# Altium schematic symbol library STC.SchLib: 68 symbols
Pins are listed as number, name and electrical type; pins without a type are passive.

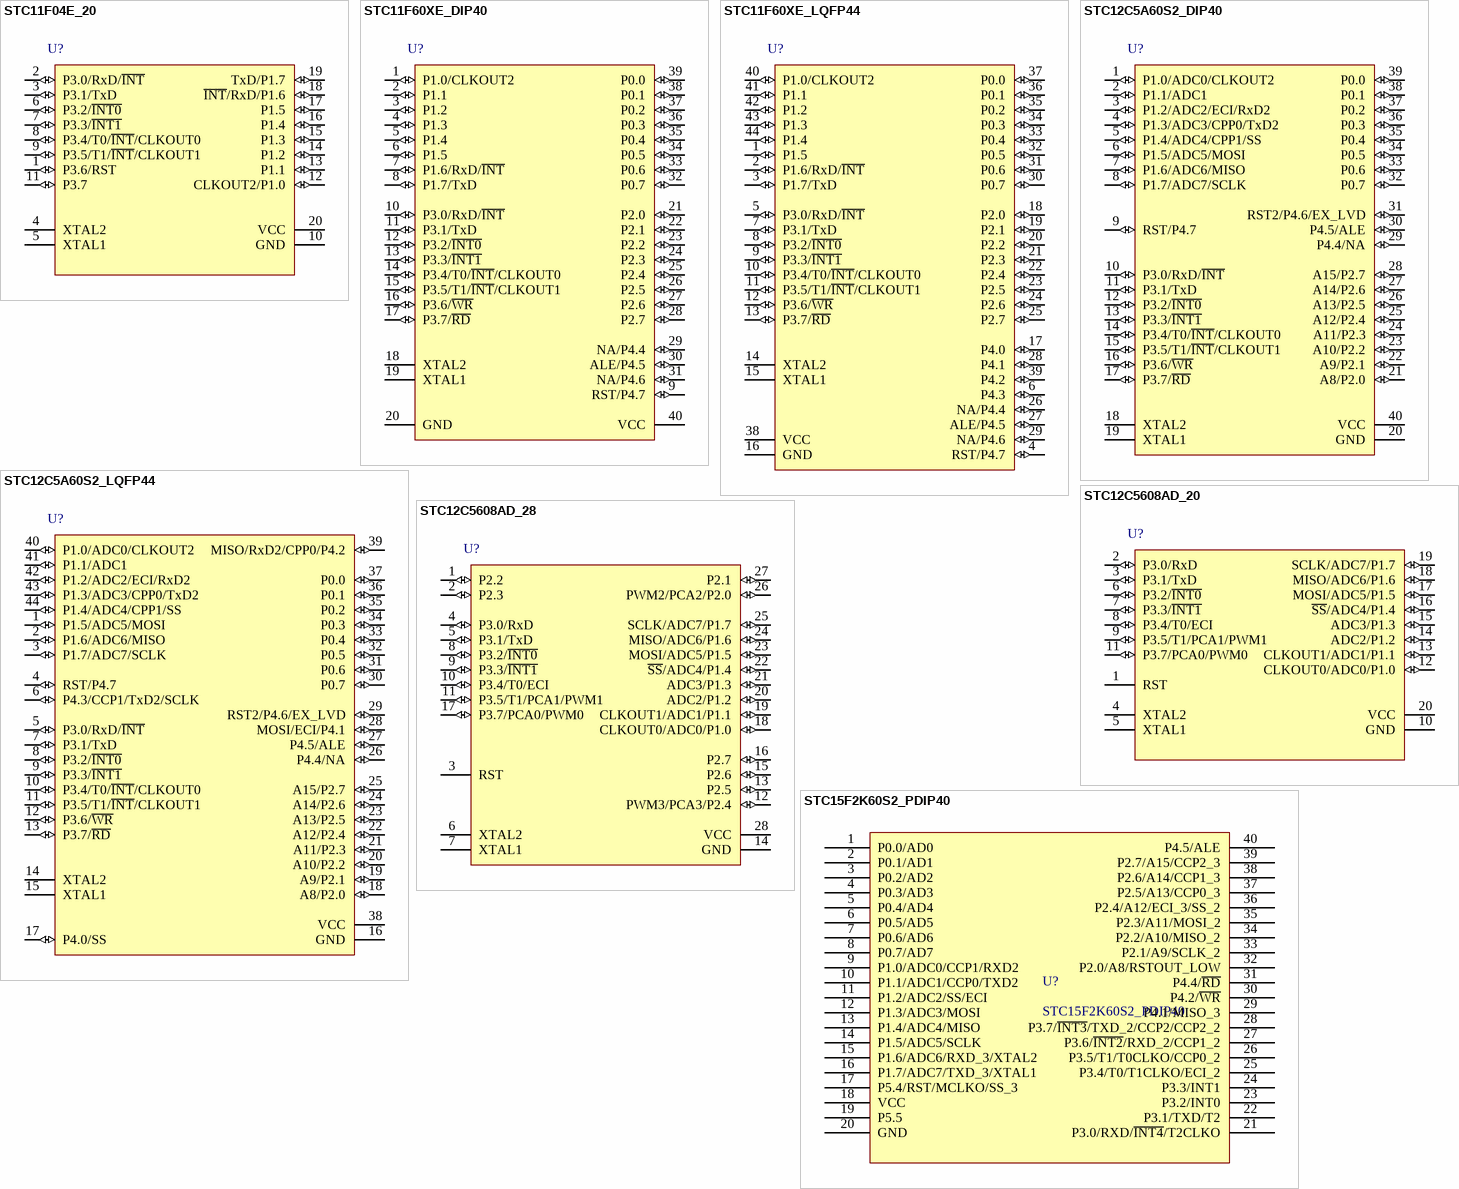
[diagram p0: symbols STC11F04E_20 to STC15F2K60S2_PDIP40]

## STC11F04E_20
designator U?
增强型8051单片机
footprint DIP20
footprint SOP20
pins: 1 P3.6/RST (io), 2 P3.0/RxD/~{INT} (io), 3 P3.1/TxD (io), 4 XTAL2, 5 XTAL1, 6 P3.2/~{INT0} (io), 7 P3.3/~{INT1} (io), 8 P3.4/T0/~{INT}/CLKOUT0 (io), 9 P3.5/T1/~{INT}/CLKOUT1 (io), 10 GND (power), 11 P3.7 (io), 12 CLKOUT2/P1.0 (io), 13 P1.1 (io), 14 P1.2 (io), 15 P1.3 (io), 16 P1.4 (io), 17 P1.5 (io), 18 ~{INT}/RxD/P1.6 (io), 19 TxD/P1.7 (io), 20 VCC (power)

## STC11F60XE_DIP40
designator U?
增强型8051单片机
footprint DIP40
pins: 1 P1.0/CLKOUT2 (io), 2 P1.1 (io), 3 P1.2 (io), 4 P1.3 (io), 5 P1.4 (io), 6 P1.5 (io), 7 P1.6/RxD/~{INT} (io), 8 P1.7/TxD (io), 9 RST/P4.7 (io), 10 P3.0/RxD/~{INT} (io), 11 P3.1/TxD (io), 12 P3.2/~{INT0} (io), 13 P3.3/~{INT1} (io), 14 P3.4/T0/~{INT}/CLKOUT0 (io), 15 P3.5/T1/~{INT}/CLKOUT1 (io), 16 P3.6/~{WR} (io), 17 P3.7/~{RD} (io), 18 XTAL2, 19 XTAL1, 20 GND (power), 21 P2.0 (io), 22 P2.1 (io), 23 P2.2 (io), 24 P2.3 (io), 25 P2.4 (io), 26 P2.5 (io), 27 P2.6 (io), 28 P2.7 (io), 29 NA/P4.4 (io), 30 ALE/P4.5 (io), 31 NA/P4.6 (io), 32 P0.7 (io), 33 P0.6 (io), 34 P0.5 (io), 35 P0.4 (io), 36 P0.3 (io), 37 P0.2 (io), 38 P0.1 (io), 39 P0.0 (io), 40 VCC (power)

## STC11F60XE_LQFP44
designator U?
增强型8051单片机
footprint LQFP44
pins: 1 P1.5 (io), 2 P1.6/RxD/~{INT} (io), 3 P1.7/TxD (io), 4 RST/P4.7 (io), 5 P3.0/RxD/~{INT} (io), 6 P4.3 (io), 7 P3.1/TxD (io), 8 P3.2/~{INT0} (io), 9 P3.3/~{INT1} (io), 10 P3.4/T0/~{INT}/CLKOUT0 (io), 11 P3.5/T1/~{INT}/CLKOUT1 (io), 12 P3.6/~{WR} (io), 13 P3.7/~{RD} (io), 14 XTAL2, 15 XTAL1, 16 GND (power), 17 P4.0 (io), 18 P2.0 (io), 19 P2.1 (io), 20 P2.2 (io), 21 P2.3 (io), 22 P2.4 (io), 23 P2.5 (io), 24 P2.6 (io), 25 P2.7 (io), 26 NA/P4.4 (io), 27 ALE/P4.5 (io), 28 P4.1 (io), 29 NA/P4.6 (io), 30 P0.7 (io), 31 P0.6 (io), 32 P0.5 (io), 33 P0.4 (io), 34 P0.3 (io), 35 P0.2 (io), 36 P0.1 (io), 37 P0.0 (io), 38 VCC (power), 39 P4.2 (io), 40 P1.0/CLKOUT2 (io), 41 P1.1 (io), 42 P1.2 (io), 43 P1.3 (io), 44 P1.4 (io)

## STC12C5A60S2_DIP40
designator U?
增强型8051单片机
footprint DIP40
pins: 1 P1.0/ADC0/CLKOUT2 (io), 2 P1.1/ADC1 (io), 3 P1.2/ADC2/ECI/RxD2 (io), 4 P1.3/ADC3/CPP0/TxD2 (io), 5 P1.4/ADC4/CPP1/SS (io), 6 P1.5/ADC5/MOSI (io), 7 P1.6/ADC6/MISO (io), 8 P1.7/ADC7/SCLK (io), 9 RST/P4.7 (io), 10 P3.0/RxD/~{INT} (io), 11 P3.1/TxD (io), 12 P3.2/~{INT0} (io), 13 P3.3/~{INT1} (io), 14 P3.4/T0/~{INT}/CLKOUT0 (io), 15 P3.5/T1/~{INT}/CLKOUT1 (io), 16 P3.6/~{WR} (io), 17 P3.7/~{RD} (io), 18 XTAL2, 19 XTAL1, 20 GND (power), 21 A8/P2.0 (io), 22 A9/P2.1 (io), 23 A10/P2.2 (io), 24 A11/P2.3 (io), 25 A12/P2.4 (io), 26 A13/P2.5 (io), 27 A14/P2.6 (io), 28 A15/P2.7 (io), 29 P4.4/NA (io), 30 P4.5/ALE (io), 31 RST2/P4.6/EX_LVD (io), 32 P0.7 (io), 33 P0.6 (io), 34 P0.5 (io), 35 P0.4 (io), 36 P0.3 (io), 37 P0.2 (io), 38 P0.1 (io), 39 P0.0 (io), 40 VCC (power)

## STC12C5A60S2_LQFP44
designator U?
增强型8051单片机
footprint LQFP44
pins: 1 P1.5/ADC5/MOSI (io), 2 P1.6/ADC6/MISO (io), 3 P1.7/ADC7/SCLK (io), 4 RST/P4.7 (io), 5 P3.0/RxD/~{INT} (io), 6 P4.3/CCP1/TxD2/SCLK (io), 7 P3.1/TxD (io), 8 P3.2/~{INT0} (io), 9 P3.3/~{INT1} (io), 10 P3.4/T0/~{INT}/CLKOUT0 (io), 11 P3.5/T1/~{INT}/CLKOUT1 (io), 12 P3.6/~{WR} (io), 13 P3.7/~{RD} (io), 14 XTAL2, 15 XTAL1, 16 GND (power), 17 P4.0/SS (io), 18 A8/P2.0 (io), 19 A9/P2.1 (io), 20 A10/P2.2 (io), 21 A11/P2.3 (io), 22 A12/P2.4 (io), 23 A13/P2.5 (io), 24 A14/P2.6 (io), 25 A15/P2.7 (io), 26 P4.4/NA (io), 27 P4.5/ALE (io), 28 MOSI/ECI/P4.1 (io), 29 RST2/P4.6/EX_LVD (io), 30 P0.7 (io), 31 P0.6 (io), 32 P0.5 (io), 33 P0.4 (io), 34 P0.3 (io), 35 P0.2 (io), 36 P0.1 (io), 37 P0.0 (io), 38 VCC (power), 39 MISO/RxD2/CPP0/P4.2 (io), 40 P1.0/ADC0/CLKOUT2 (io), 41 P1.1/ADC1 (io), 42 P1.2/ADC2/ECI/RxD2 (io), 43 P1.3/ADC3/CPP0/TxD2 (io), 44 P1.4/ADC4/CPP1/SS (io)

## STC12C5608AD_20
designator U?
增强型8051单片机
footprint DIP20
footprint SOP20
pins: 1 RST, 2 P3.0/RxD (io), 3 P3.1/TxD (io), 4 XTAL2, 5 XTAL1, 6 P3.2/~{INT0} (io), 7 P3.3/~{INT1} (io), 8 P3.4/T0/ECI (io), 9 P3.5/T1/PCA1/PWM1 (io), 10 GND (power), 11 P3.7/PCA0/PWM0 (io), 12 CLKOUT0/ADC0/P1.0 (io), 13 CLKOUT1/ADC1/P1.1 (io), 14 ADC2/P1.2 (io), 15 ADC3/P1.3 (io), 16 ~{SS}/ADC4/P1.4 (io), 17 MOSI/ADC5/P1.5 (io), 18 MISO/ADC6/P1.6 (io), 19 SCLK/ADC7/P1.7 (io), 20 VCC (power)

## STC12C5608AD_28
designator U?
增强型8051单片机
footprint SKDIP28
footprint SOP28
pins: 1 P2.2 (io), 2 P2.3 (io), 3 RST, 4 P3.0/RxD (io), 5 P3.1/TxD (io), 6 XTAL2, 7 XTAL1, 8 P3.2/~{INT0} (io), 9 P3.3/~{INT1} (io), 10 P3.4/T0/ECI (io), 11 P3.5/T1/PCA1/PWM1 (io), 12 PWM3/PCA3/P2.4 (io), 13 P2.5 (io), 14 GND (power), 15 P2.6 (io), 16 P2.7 (io), 17 P3.7/PCA0/PWM0 (io), 18 CLKOUT0/ADC0/P1.0 (io), 19 CLKOUT1/ADC1/P1.1 (io), 20 ADC2/P1.2 (io), 21 ADC3/P1.3 (io), 22 ~{SS}/ADC4/P1.4 (io), 23 MOSI/ADC5/P1.5 (io), 24 MISO/ADC6/P1.6 (io), 25 SCLK/ADC7/P1.7 (io), 26 PWM2/PCA2/P2.0 (io), 27 P2.1 (io), 28 VCC (power)

## STC15F2K60S2_PDIP40
designator U?
footprint DIP40
pins: 1 P0.0/AD0, 2 P0.1/AD1, 3 P0.2/AD2, 4 P0.3/AD3, 5 P0.4/AD4, 6 P0.5/AD5, 7 P0.6/AD6, 8 P0.7/AD7, 9 P1.0/ADC0/CCP1/RXD2, 10 P1.1/ADC1/CCP0/TXD2, 11 P1.2/ADC2/SS/ECI, 12 P1.3/ADC3/MOSI, 13 P1.4/ADC4/MISO, 14 P1.5/ADC5/SCLK, 15 P1.6/ADC6/RXD_3/XTAL2, 16 P1.7/ADC7/TXD_3/XTAL1, 17 P5.4/RST/MCLKO/SS_3, 18 VCC, 19 P5.5, 20 GND, 21 P3.0/RXD/~{INT4}/T2CLKO, 22 P3.1/TXD/T2, 23 P3.2/INT0, 24 P3.3/INT1, 25 P3.4/T0/T1CLKO/ECI_2, 26 P3.5/T1/T0CLKO/CCP0_2, 27 P3.6/~{INT2}/RXD_2/CCP1_2, 28 P3.7/~{INT3}/TXD_2/CCP2/CCP2_2, 29 P4.1/MISO_3, 30 P4.2/~{WR}, 31 P4.4/~{RD}, 32 P2.0/A8/RSTOUT_LOW, 33 P2.1/A9/SCLK_2, 34 P2.2/A10/MISO_2, 35 P2.3/A11/MOSI_2, 36 P2.4/A12/ECI_3/SS_2, 37 P2.5/A13/CCP0_3, 38 P2.6/A14/CCP1_3, 39 P2.7/A15/CCP2_3, 40 P4.5/ALE

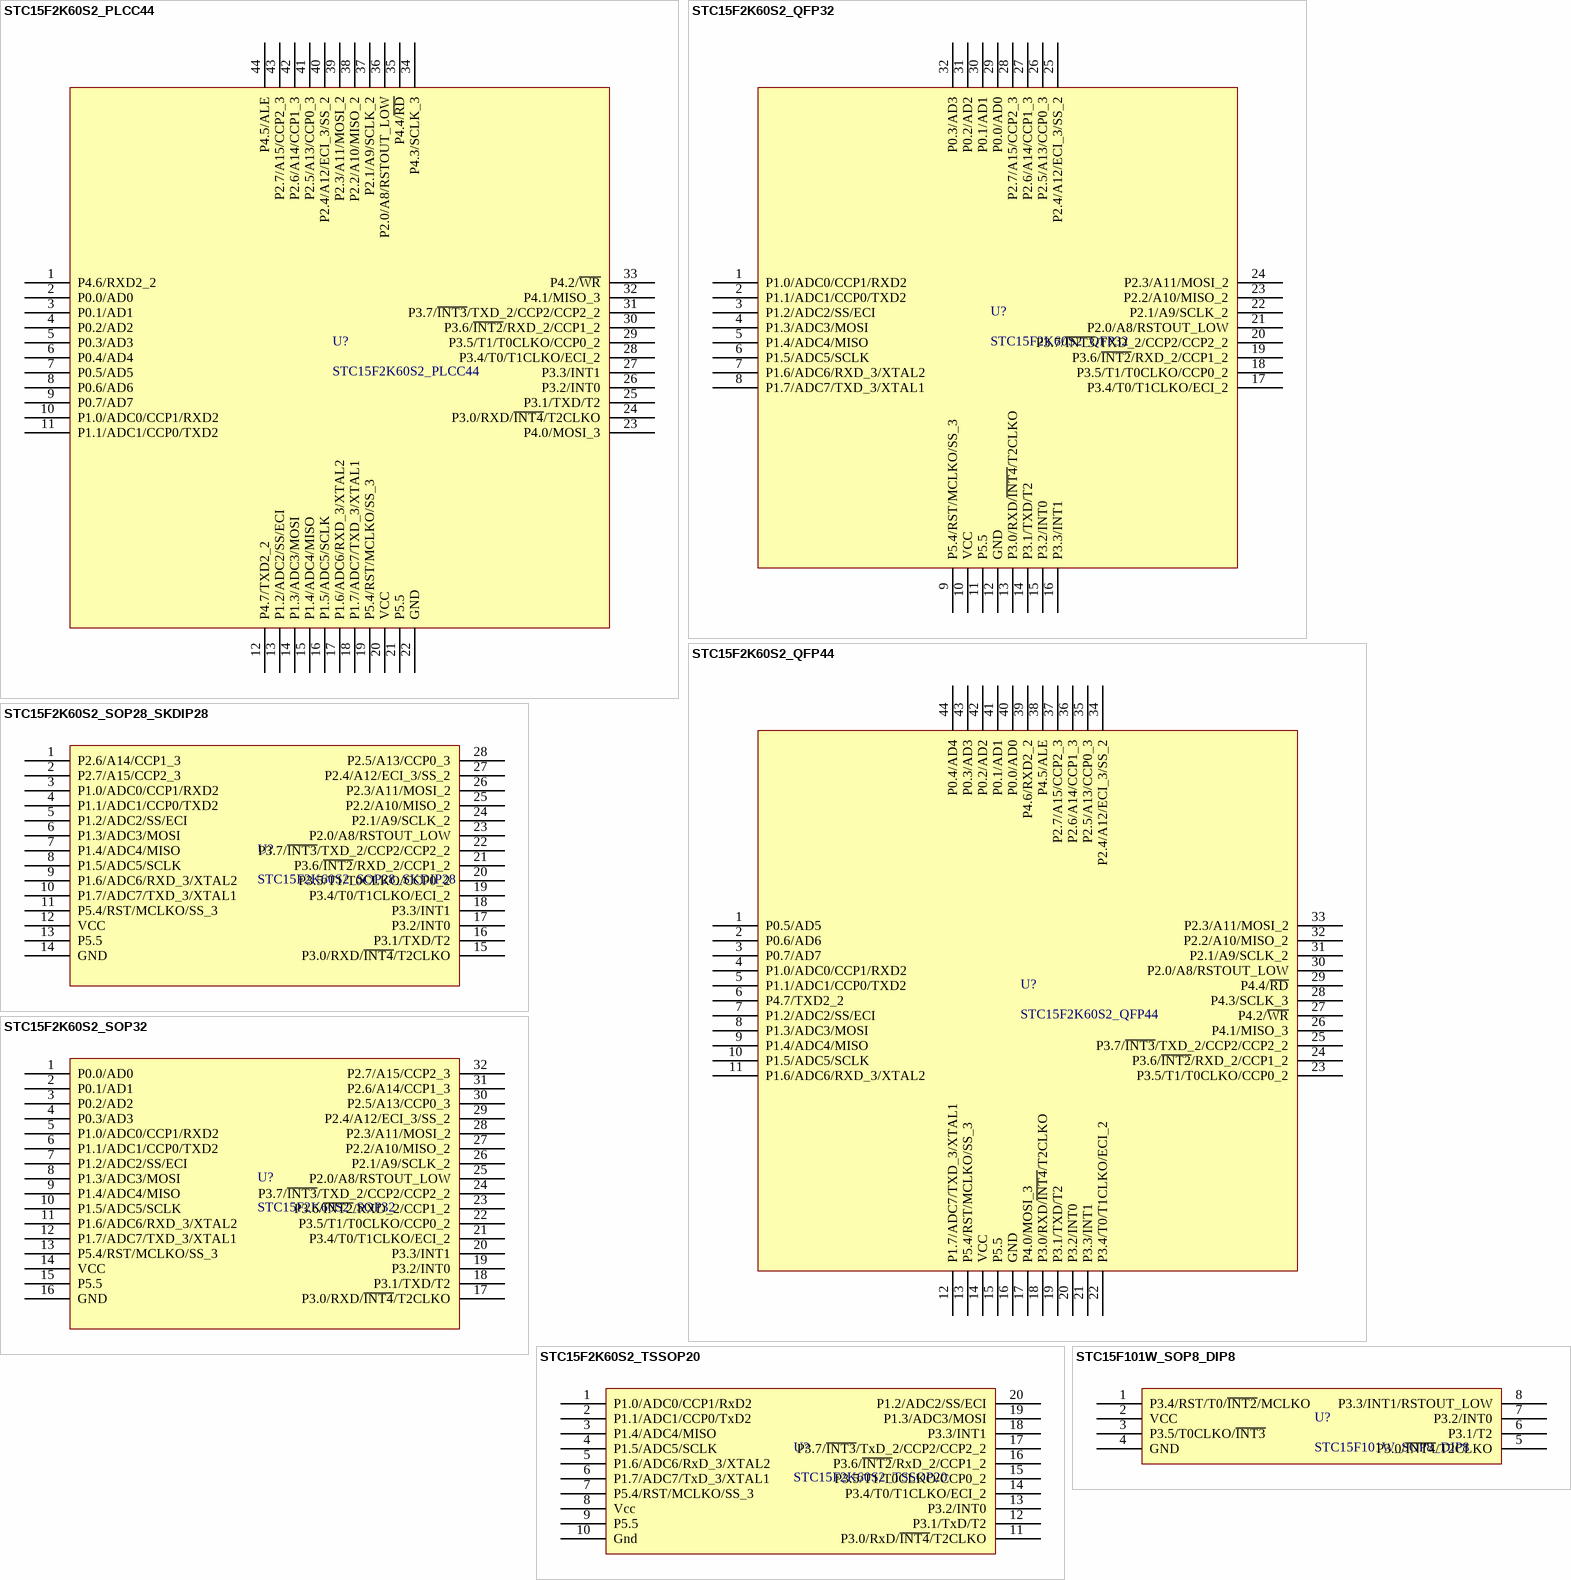
[diagram p1: symbols STC15F2K60S2_PLCC44 to STC15F101W_SOP8_DIP8]

## STC15F2K60S2_PLCC44
designator U?
footprint PLCC44
pins: 1 P4.6/RXD2_2, 2 P0.0/AD0, 3 P0.1/AD1, 4 P0.2/AD2, 5 P0.3/AD3, 6 P0.4/AD4, 7 P0.5/AD5, 8 P0.6/AD6, 9 P0.7/AD7, 10 P1.0/ADC0/CCP1/RXD2, 11 P1.1/ADC1/CCP0/TXD2, 12 P4.7/TXD2_2, 13 P1.2/ADC2/SS/ECI, 14 P1.3/ADC3/MOSI, 15 P1.4/ADC4/MISO, 16 P1.5/ADC5/SCLK, 17 P1.6/ADC6/RXD_3/XTAL2, 18 P1.7/ADC7/TXD_3/XTAL1, 19 P5.4/RST/MCLKO/SS_3, 20 VCC, 21 P5.5, 22 GND, 23 P4.0/MOSI_3, 24 P3.0/RXD/~{INT4}/T2CLKO, 25 P3.1/TXD/T2, 26 P3.2/INT0, 27 P3.3/INT1, 28 P3.4/T0/T1CLKO/ECI_2, 29 P3.5/T1/T0CLKO/CCP0_2, 30 P3.6/~{INT2}/RXD_2/CCP1_2, 31 P3.7/~{INT3}/TXD_2/CCP2/CCP2_2, 32 P4.1/MISO_3, 33 P4.2/~{WR}, 34 P4.3/SCLK_3, 35 P4.4/~{RD}, 36 P2.0/A8/RSTOUT_LOW, 37 P2.1/A9/SCLK_2, 38 P2.2/A10/MISO_2, 39 P2.3/A11/MOSI_2, 40 P2.4/A12/ECI_3/SS_2, 41 P2.5/A13/CCP0_3, 42 P2.6/A14/CCP1_3, 43 P2.7/A15/CCP2_3, 44 P4.5/ALE

## STC15F2K60S2_QFP32
designator U?
footprint LQFP32
pins: 1 P1.0/ADC0/CCP1/RXD2, 2 P1.1/ADC1/CCP0/TXD2, 3 P1.2/ADC2/SS/ECI, 4 P1.3/ADC3/MOSI, 5 P1.4/ADC4/MISO, 6 P1.5/ADC5/SCLK, 7 P1.6/ADC6/RXD_3/XTAL2, 8 P1.7/ADC7/TXD_3/XTAL1, 9 P5.4/RST/MCLKO/SS_3, 10 VCC, 11 P5.5, 12 GND, 13 P3.0/RXD/~{INT4}/T2CLKO, 14 P3.1/TXD/T2, 15 P3.2/INT0, 16 P3.3/INT1, 17 P3.4/T0/T1CLKO/ECI_2, 18 P3.5/T1/T0CLKO/CCP0_2, 19 P3.6/~{INT2}/RXD_2/CCP1_2, 20 P3.7/~{INT3}/TXD_2/CCP2/CCP2_2, 21 P2.0/A8/RSTOUT_LOW, 22 P2.1/A9/SCLK_2, 23 P2.2/A10/MISO_2, 24 P2.3/A11/MOSI_2, 25 P2.4/A12/ECI_3/SS_2, 26 P2.5/A13/CCP0_3, 27 P2.6/A14/CCP1_3, 28 P2.7/A15/CCP2_3, 29 P0.0/AD0, 30 P0.1/AD1, 31 P0.2/AD2, 32 P0.3/AD3

## STC15F2K60S2_QFP44
designator U?
footprint PQFP44
footprint LQFP44
pins: 1 P0.5/AD5, 2 P0.6/AD6, 3 P0.7/AD7, 4 P1.0/ADC0/CCP1/RXD2, 5 P1.1/ADC1/CCP0/TXD2, 6 P4.7/TXD2_2, 7 P1.2/ADC2/SS/ECI, 8 P1.3/ADC3/MOSI, 9 P1.4/ADC4/MISO, 10 P1.5/ADC5/SCLK, 11 P1.6/ADC6/RXD_3/XTAL2, 12 P1.7/ADC7/TXD_3/XTAL1, 13 P5.4/RST/MCLKO/SS_3, 14 VCC, 15 P5.5, 16 GND, 17 P4.0/MOSI_3, 18 P3.0/RXD/~{INT4}/T2CLKO, 19 P3.1/TXD/T2, 20 P3.2/INT0, 21 P3.3/INT1, 22 P3.4/T0/T1CLKO/ECI_2, 23 P3.5/T1/T0CLKO/CCP0_2, 24 P3.6/~{INT2}/RXD_2/CCP1_2, 25 P3.7/~{INT3}/TXD_2/CCP2/CCP2_2, 26 P4.1/MISO_3, 27 P4.2/~{WR}, 28 P4.3/SCLK_3, 29 P4.4/~{RD}, 30 P2.0/A8/RSTOUT_LOW, 31 P2.1/A9/SCLK_2, 32 P2.2/A10/MISO_2, 33 P2.3/A11/MOSI_2, 34 P2.4/A12/ECI_3/SS_2, 35 P2.5/A13/CCP0_3, 36 P2.6/A14/CCP1_3, 37 P2.7/A15/CCP2_3, 38 P4.5/ALE, 39 P4.6/RXD2_2, 40 P0.0/AD0, 41 P0.1/AD1, 42 P0.2/AD2, 43 P0.3/AD3, 44 P0.4/AD4

## STC15F2K60S2_SOP28_SKDIP28
designator U?
footprint SKDIP28
footprint SOP28
footprint TSSOP28
pins: 1 P2.6/A14/CCP1_3, 2 P2.7/A15/CCP2_3, 3 P1.0/ADC0/CCP1/RXD2, 4 P1.1/ADC1/CCP0/TXD2, 5 P1.2/ADC2/SS/ECI, 6 P1.3/ADC3/MOSI, 7 P1.4/ADC4/MISO, 8 P1.5/ADC5/SCLK, 9 P1.6/ADC6/RXD_3/XTAL2, 10 P1.7/ADC7/TXD_3/XTAL1, 11 P5.4/RST/MCLKO/SS_3, 12 VCC, 13 P5.5, 14 GND, 15 P3.0/RXD/~{INT4}/T2CLKO, 16 P3.1/TXD/T2, 17 P3.2/INT0, 18 P3.3/INT1, 19 P3.4/T0/T1CLKO/ECI_2, 20 P3.5/T1/T0CLKO/CCP0_2, 21 P3.6/~{INT2}/RXD_2/CCP1_2, 22 P3.7/~{INT3}/TXD_2/CCP2/CCP2_2, 23 P2.0/A8/RSTOUT_LOW, 24 P2.1/A9/SCLK_2, 25 P2.2/A10/MISO_2, 26 P2.3/A11/MOSI_2, 27 P2.4/A12/ECI_3/SS_2, 28 P2.5/A13/CCP0_3

## STC15F2K60S2_SOP32
designator U?
footprint SOP32
pins: 1 P0.0/AD0, 2 P0.1/AD1, 3 P0.2/AD2, 4 P0.3/AD3, 5 P1.0/ADC0/CCP1/RXD2, 6 P1.1/ADC1/CCP0/TXD2, 7 P1.2/ADC2/SS/ECI, 8 P1.3/ADC3/MOSI, 9 P1.4/ADC4/MISO, 10 P1.5/ADC5/SCLK, 11 P1.6/ADC6/RXD_3/XTAL2, 12 P1.7/ADC7/TXD_3/XTAL1, 13 P5.4/RST/MCLKO/SS_3, 14 VCC, 15 P5.5, 16 GND, 17 P3.0/RXD/~{INT4}/T2CLKO, 18 P3.1/TXD/T2, 19 P3.2/INT0, 20 P3.3/INT1, 21 P3.4/T0/T1CLKO/ECI_2, 22 P3.5/T1/T0CLKO/CCP0_2, 23 P3.6/~{INT2}/RXD_2/CCP1_2, 24 P3.7/~{INT3}/TXD_2/CCP2/CCP2_2, 25 P2.0/A8/RSTOUT_LOW, 26 P2.1/A9/SCLK_2, 27 P2.2/A10/MISO_2, 28 P2.3/A11/MOSI_2, 29 P2.4/A12/ECI_3/SS_2, 30 P2.5/A13/CCP0_3, 31 P2.6/A14/CCP1_3, 32 P2.7/A15/CCP2_3

## STC15F2K60S2_TSSOP20
designator U?
footprint TSSOP20
pins: 1 P1.0/ADC0/CCP1/RxD2, 2 P1.1/ADC1/CCP0/TxD2, 3 P1.4/ADC4/MISO, 4 P1.5/ADC5/SCLK, 5 P1.6/ADC6/RxD_3/XTAL2, 6 P1.7/ADC7/TxD_3/XTAL1, 7 P5.4/RST/MCLKO/SS_3, 8 Vcc, 9 P5.5, 10 Gnd, 11 P3.0/RxD/~{INT4}/T2CLKO, 12 P3.1/TxD/T2, 13 P3.2/INT0, 14 P3.4/T0/T1CLKO/ECI_2, 15 P3.5/T1/T0CLKO/CCP0_2, 16 P3.6/~{INT2}/RxD_2/CCP1_2, 17 P3.7/~{INT3}/TxD_2/CCP2/CCP2_2, 18 P3.3/INT1, 19 P1.3/ADC3/MOSI, 20 P1.2/ADC2/SS/ECI

## STC15F101W_SOP8_DIP8
designator U?
footprint DFN8
footprint DIP8
footprint SOP8
footprint DIP8_SOP8
pins: 1 P3.4/RST/T0/~{INT2}/MCLKO, 2 VCC, 3 P3.5/T0CLKO/~{INT3}, 4 GND, 5 P3.0/~{INT4}/T2CLKO, 6 P3.1/T2, 7 P3.2/INT0, 8 P3.3/INT1/RSTOUT_LOW

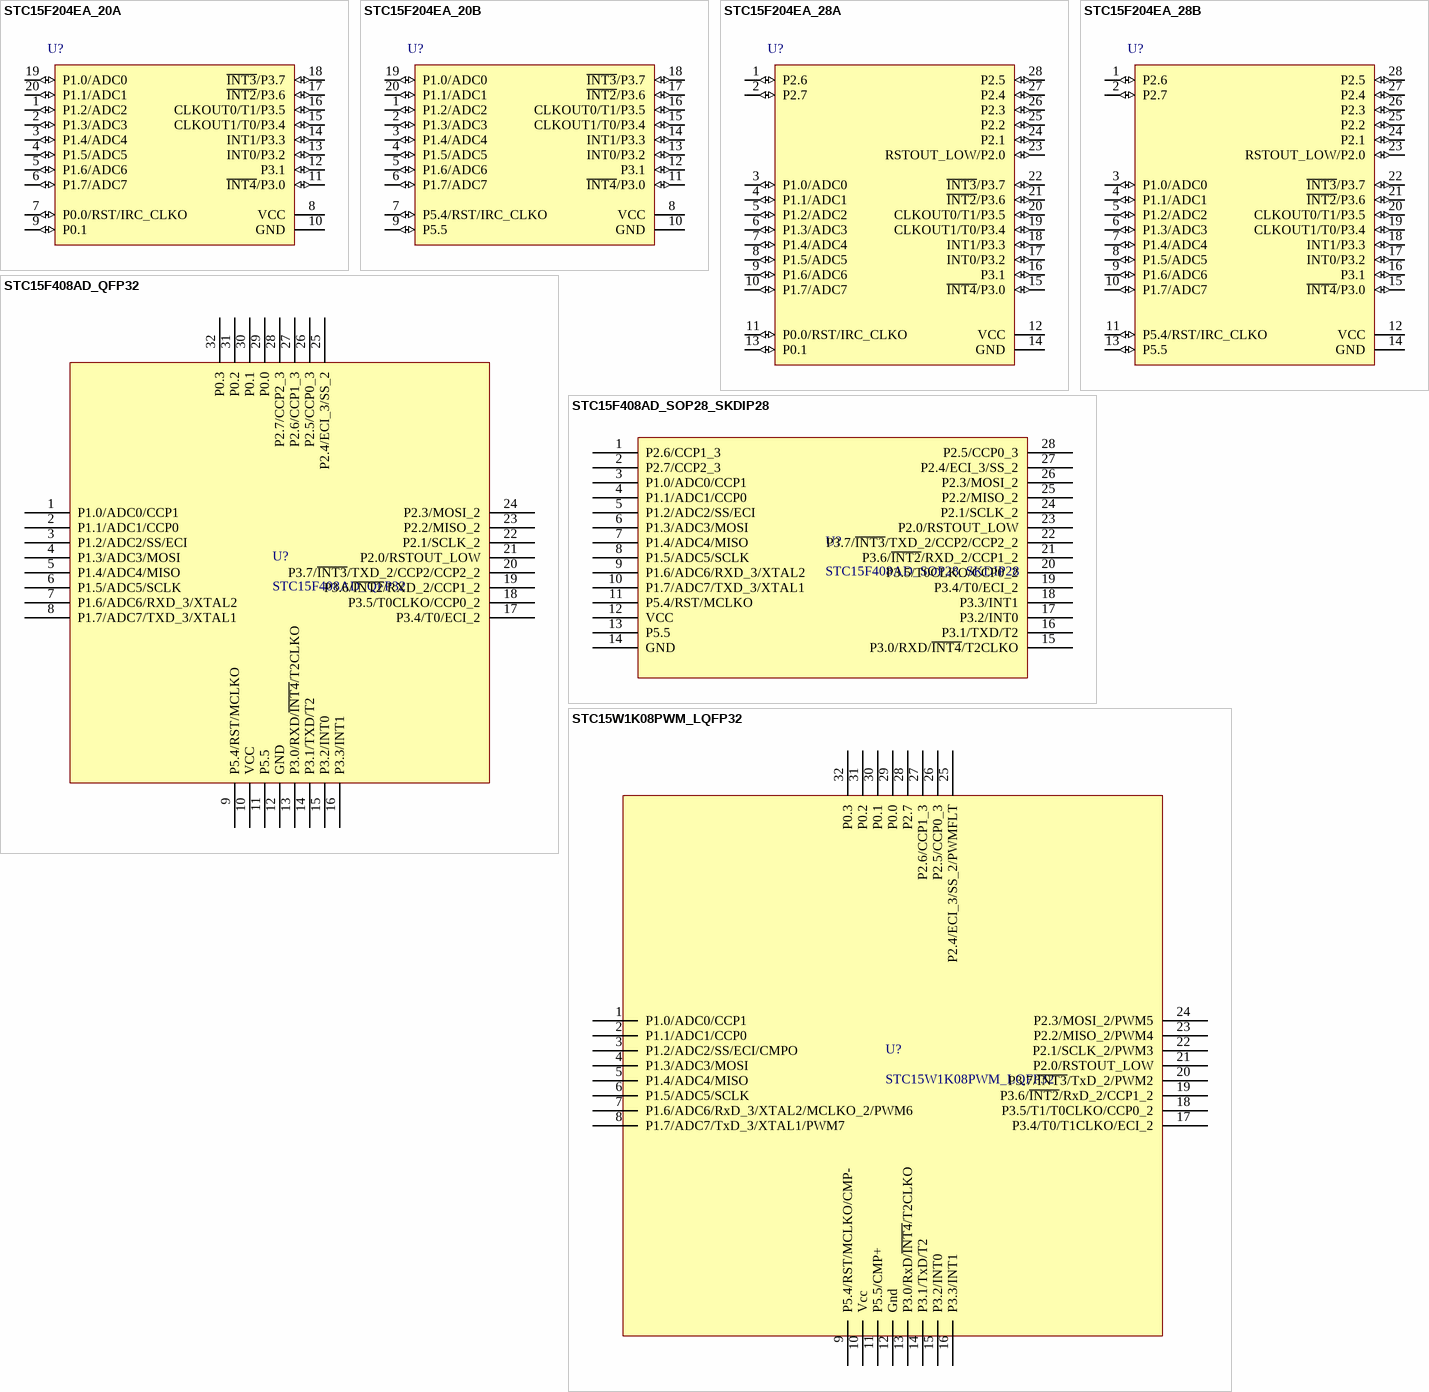
[diagram p2: symbols STC15F204EA_20A to STC15W1K08PWM_LQFP32]

## STC15F204EA_20A
designator U?
增强型8051单片机
footprint DIP20
footprint SOP20
pins: 1 P1.2/ADC2 (io), 2 P1.3/ADC3 (io), 3 P1.4/ADC4 (io), 4 P1.5/ADC5 (io), 5 P1.6/ADC6 (io), 6 P1.7/ADC7 (io), 7 P0.0/RST/IRC_CLKO (io), 8 VCC (power), 9 P0.1 (io), 10 GND (power), 11 ~{INT4}/P3.0 (io), 12 P3.1 (io), 13 INT0/P3.2 (io), 14 INT1/P3.3 (io), 15 CLKOUT1/T0/P3.4 (io), 16 CLKOUT0/T1/P3.5 (io), 17 ~{INT2}/P3.6 (io), 18 ~{INT3}/P3.7 (io), 19 P1.0/ADC0 (io), 20 P1.1/ADC1 (io)

## STC15F204EA_20B
designator U?
增强型8051单片机
footprint DIP20
footprint SOP20
pins: 1 P1.2/ADC2 (io), 2 P1.3/ADC3 (io), 3 P1.4/ADC4 (io), 4 P1.5/ADC5 (io), 5 P1.6/ADC6 (io), 6 P1.7/ADC7 (io), 7 P5.4/RST/IRC_CLKO (io), 8 VCC (power), 9 P5.5 (io), 10 GND (power), 11 ~{INT4}/P3.0 (io), 12 P3.1 (io), 13 INT0/P3.2 (io), 14 INT1/P3.3 (io), 15 CLKOUT1/T0/P3.4 (io), 16 CLKOUT0/T1/P3.5 (io), 17 ~{INT2}/P3.6 (io), 18 ~{INT3}/P3.7 (io), 19 P1.0/ADC0 (io), 20 P1.1/ADC1 (io)

## STC15F204EA_28A
designator U?
增强型8051单片机
footprint SKDIP28
footprint SOP28
pins: 1 P2.6 (io), 2 P2.7 (io), 3 P1.0/ADC0 (io), 4 P1.1/ADC1 (io), 5 P1.2/ADC2 (io), 6 P1.3/ADC3 (io), 7 P1.4/ADC4 (io), 8 P1.5/ADC5 (io), 9 P1.6/ADC6 (io), 10 P1.7/ADC7 (io), 11 P0.0/RST/IRC_CLKO (io), 12 VCC (power), 13 P0.1 (io), 14 GND (power), 15 ~{INT4}/P3.0 (io), 16 P3.1 (io), 17 INT0/P3.2 (io), 18 INT1/P3.3 (io), 19 CLKOUT1/T0/P3.4 (io), 20 CLKOUT0/T1/P3.5 (io), 21 ~{INT2}/P3.6 (io), 22 ~{INT3}/P3.7 (io), 23 RSTOUT_LOW/P2.0 (io), 24 P2.1 (io), 25 P2.2 (io), 26 P2.3 (io), 27 P2.4 (io), 28 P2.5 (io)

## STC15F204EA_28B
designator U?
增强型8051单片机
footprint SKDIP28
footprint SOP28
pins: 1 P2.6 (io), 2 P2.7 (io), 3 P1.0/ADC0 (io), 4 P1.1/ADC1 (io), 5 P1.2/ADC2 (io), 6 P1.3/ADC3 (io), 7 P1.4/ADC4 (io), 8 P1.5/ADC5 (io), 9 P1.6/ADC6 (io), 10 P1.7/ADC7 (io), 11 P5.4/RST/IRC_CLKO (io), 12 VCC (power), 13 P5.5 (io), 14 GND (power), 15 ~{INT4}/P3.0 (io), 16 P3.1 (io), 17 INT0/P3.2 (io), 18 INT1/P3.3 (io), 19 CLKOUT1/T0/P3.4 (io), 20 CLKOUT0/T1/P3.5 (io), 21 ~{INT2}/P3.6 (io), 22 ~{INT3}/P3.7 (io), 23 RSTOUT_LOW/P2.0 (io), 24 P2.1 (io), 25 P2.2 (io), 26 P2.3 (io), 27 P2.4 (io), 28 P2.5 (io)

## STC15F408AD_QFP32
designator U?
footprint LQFP32
pins: 1 P1.0/ADC0/CCP1, 2 P1.1/ADC1/CCP0, 3 P1.2/ADC2/SS/ECI, 4 P1.3/ADC3/MOSI, 5 P1.4/ADC4/MISO, 6 P1.5/ADC5/SCLK, 7 P1.6/ADC6/RXD_3/XTAL2, 8 P1.7/ADC7/TXD_3/XTAL1, 9 P5.4/RST/MCLKO, 10 VCC, 11 P5.5, 12 GND, 13 P3.0/RXD/~{INT4}/T2CLKO, 14 P3.1/TXD/T2, 15 P3.2/INT0, 16 P3.3/INT1, 17 P3.4/T0/ECI_2, 18 P3.5/T0CLKO/CCP0_2, 19 P3.6/~{INT2}/RXD_2/CCP1_2, 20 P3.7/~{INT3}/TXD_2/CCP2/CCP2_2, 21 P2.0/RSTOUT_LOW, 22 P2.1/SCLK_2, 23 P2.2/MISO_2, 24 P2.3/MOSI_2, 25 P2.4/ECI_3/SS_2, 26 P2.5/CCP0_3, 27 P2.6/CCP1_3, 28 P2.7/CCP2_3, 29 P0.0, 30 P0.1, 31 P0.2, 32 P0.3

## STC15F408AD_SOP28_SKDIP28
designator U?
footprint SKDIP28
footprint SOP28
footprint TSSOP28
pins: 1 P2.6/CCP1_3, 2 P2.7/CCP2_3, 3 P1.0/ADC0/CCP1, 4 P1.1/ADC1/CCP0, 5 P1.2/ADC2/SS/ECI, 6 P1.3/ADC3/MOSI, 7 P1.4/ADC4/MISO, 8 P1.5/ADC5/SCLK, 9 P1.6/ADC6/RXD_3/XTAL2, 10 P1.7/ADC7/TXD_3/XTAL1, 11 P5.4/RST/MCLKO, 12 VCC, 13 P5.5, 14 GND, 15 P3.0/RXD/~{INT4}/T2CLKO, 16 P3.1/TXD/T2, 17 P3.2/INT0, 18 P3.3/INT1, 19 P3.4/T0/ECI_2, 20 P3.5/T0CLKO/CCP0_2, 21 P3.6/~{INT2}/RXD_2/CCP1_2, 22 P3.7/~{INT3}/TXD_2/CCP2/CCP2_2, 23 P2.0/RSTOUT_LOW, 24 P2.1/SCLK_2, 25 P2.2/MISO_2, 26 P2.3/MOSI_2, 27 P2.4/ECI_3/SS_2, 28 P2.5/CCP0_3

## STC15W1K08PWM_LQFP32
designator U?
footprint LQFP32
pins: 1 P1.0/ADC0/CCP1, 2 P1.1/ADC1/CCP0, 3 P1.2/ADC2/SS/ECI/CMPO, 4 P1.3/ADC3/MOSI, 5 P1.4/ADC4/MISO, 6 P1.5/ADC5/SCLK, 7 P1.6/ADC6/RxD_3/XTAL2/MCLKO_2/PWM6, 8 P1.7/ADC7/TxD_3/XTAL1/PWM7, 9 P5.4/RST/MCLKO/CMP-, 10 Vcc, 11 P5.5/CMP+, 12 Gnd, 13 P3.0/RxD/~{INT4}/T2CLKO, 14 P3.1/TxD/T2, 15 P3.2/INT0, 16 P3.3/INT1, 17 P3.4/T0/T1CLKO/ECI_2, 18 P3.5/T1/T0CLKO/CCP0_2, 19 P3.6/~{INT2}/RxD_2/CCP1_2, 20 P3.7/~{INT3}/TxD_2/PWM2, 21 P2.0/RSTOUT_LOW, 22 P2.1/SCLK_2/PWM3, 23 P2.2/MISO_2/PWM4, 24 P2.3/MOSI_2/PWM5, 25 P2.4/ECI_3/SS_2/PWMFLT, 26 P2.5/CCP0_3, 27 P2.6/CCP1_3, 28 P2.7, 29 P0.0, 30 P0.1, 31 P0.2, 32 P0.3

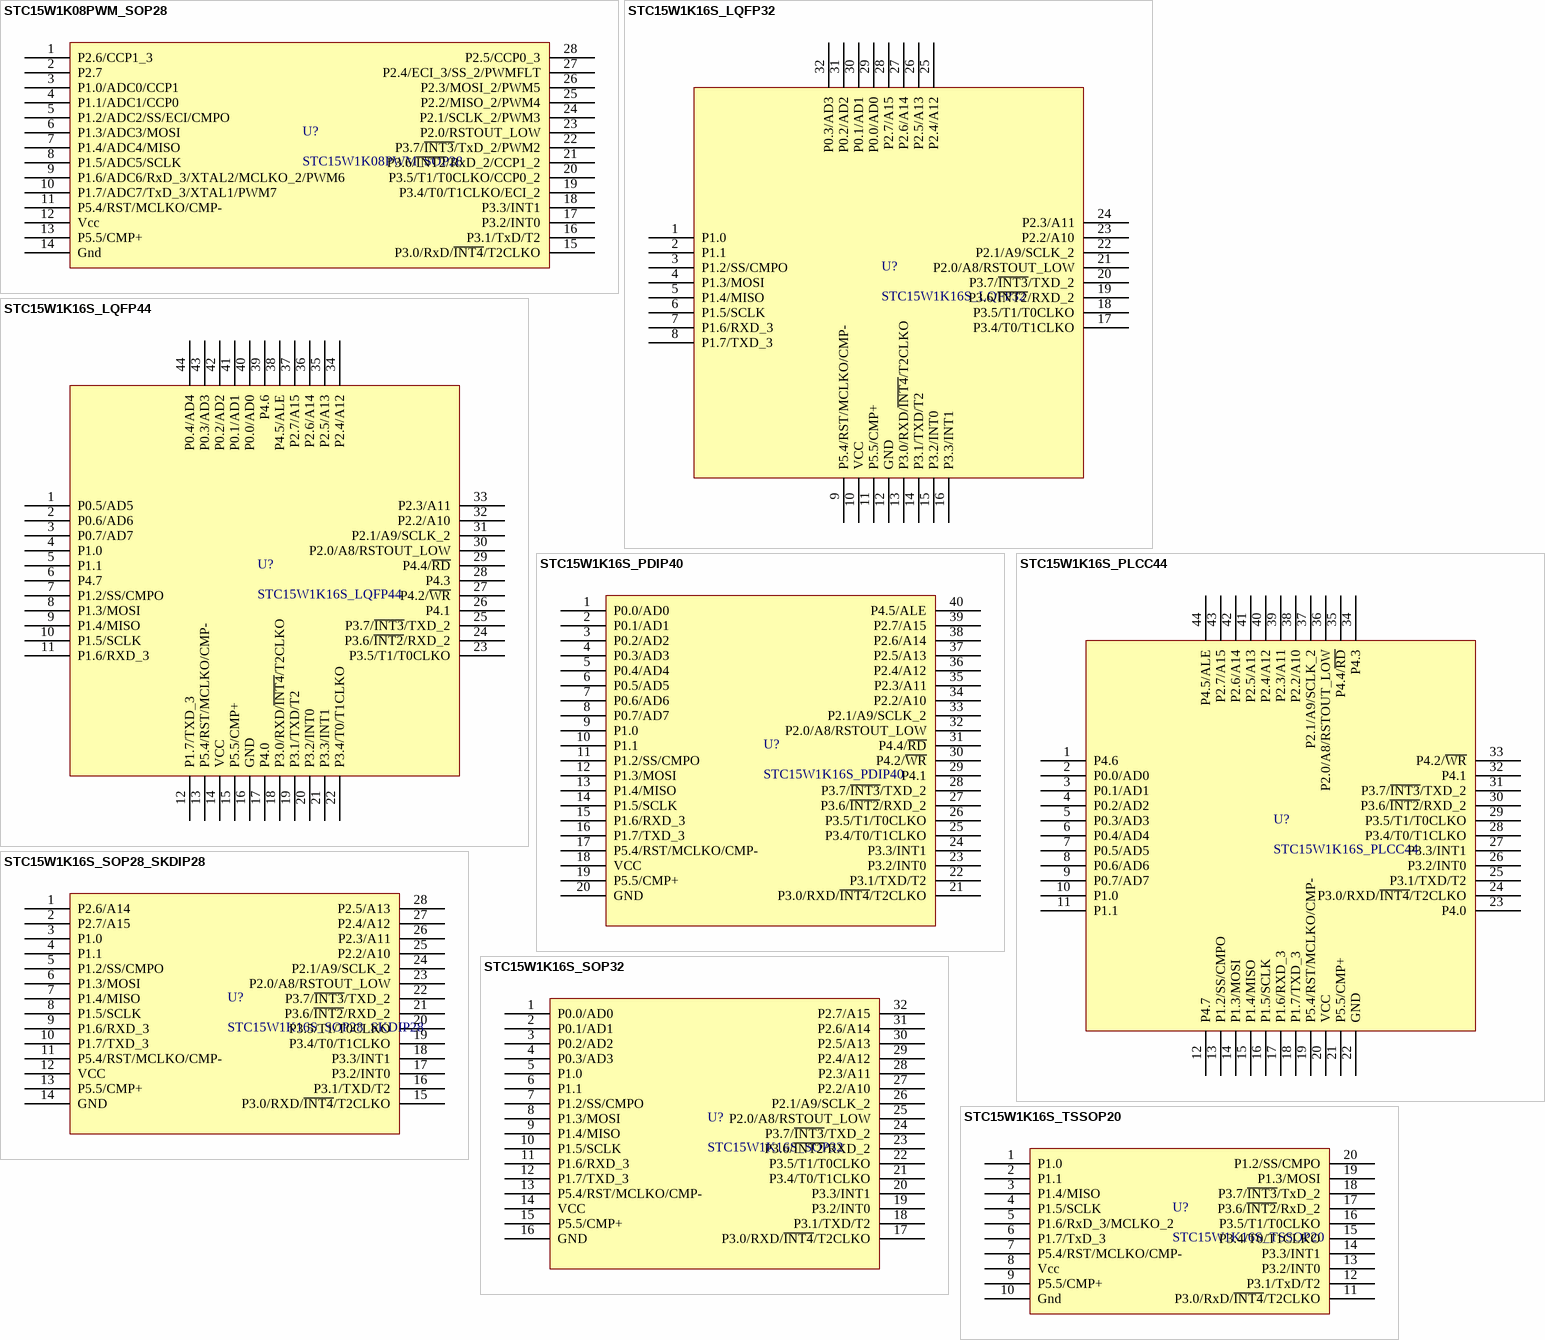
[diagram p3: symbols STC15W1K08PWM_SOP28 to STC15W1K16S_TSSOP20]

## STC15W1K08PWM_SOP28
designator U?
footprint SOP28
pins: 1 P2.6/CCP1_3, 2 P2.7, 3 P1.0/ADC0/CCP1, 4 P1.1/ADC1/CCP0, 5 P1.2/ADC2/SS/ECI/CMPO, 6 P1.3/ADC3/MOSI, 7 P1.4/ADC4/MISO, 8 P1.5/ADC5/SCLK, 9 P1.6/ADC6/RxD_3/XTAL2/MCLKO_2/PWM6, 10 P1.7/ADC7/TxD_3/XTAL1/PWM7, 11 P5.4/RST/MCLKO/CMP-, 12 Vcc, 13 P5.5/CMP+, 14 Gnd, 15 P3.0/RxD/~{INT4}/T2CLKO, 16 P3.1/TxD/T2, 17 P3.2/INT0, 18 P3.3/INT1, 19 P3.4/T0/T1CLKO/ECI_2, 20 P3.5/T1/T0CLKO/CCP0_2, 21 P3.6/~{INT2}/RxD_2/CCP1_2, 22 P3.7/~{INT3}/TxD_2/PWM2, 23 P2.0/RSTOUT_LOW, 24 P2.1/SCLK_2/PWM3, 25 P2.2/MISO_2/PWM4, 26 P2.3/MOSI_2/PWM5, 27 P2.4/ECI_3/SS_2/PWMFLT, 28 P2.5/CCP0_3

## STC15W1K16S_LQFP32
designator U?
footprint LQFP32
pins: 1 P1.0, 2 P1.1, 3 P1.2/SS/CMPO, 4 P1.3/MOSI, 5 P1.4/MISO, 6 P1.5/SCLK, 7 P1.6/RXD_3, 8 P1.7/TXD_3, 9 P5.4/RST/MCLKO/CMP-, 10 VCC, 11 P5.5/CMP+, 12 GND, 13 P3.0/RXD/~{INT4}/T2CLKO, 14 P3.1/TXD/T2, 15 P3.2/INT0, 16 P3.3/INT1, 17 P3.4/T0/T1CLKO, 18 P3.5/T1/T0CLKO, 19 P3.6/~{INT2}/RXD_2, 20 P3.7/~{INT3}/TXD_2, 21 P2.0/A8/RSTOUT_LOW, 22 P2.1/A9/SCLK_2, 23 P2.2/A10, 24 P2.3/A11, 25 P2.4/A12, 26 P2.5/A13, 27 P2.6/A14, 28 P2.7/A15, 29 P0.0/AD0, 30 P0.1/AD1, 31 P0.2/AD2, 32 P0.3/AD3

## STC15W1K16S_LQFP44
designator U?
footprint LQFP44
footprint PQFP44
pins: 1 P0.5/AD5, 2 P0.6/AD6, 3 P0.7/AD7, 4 P1.0, 5 P1.1, 6 P4.7, 7 P1.2/SS/CMPO, 8 P1.3/MOSI, 9 P1.4/MISO, 10 P1.5/SCLK, 11 P1.6/RXD_3, 12 P1.7/TXD_3, 13 P5.4/RST/MCLKO/CMP-, 14 VCC, 15 P5.5/CMP+, 16 GND, 17 P4.0, 18 P3.0/RXD/~{INT4}/T2CLKO, 19 P3.1/TXD/T2, 20 P3.2/INT0, 21 P3.3/INT1, 22 P3.4/T0/T1CLKO, 23 P3.5/T1/T0CLKO, 24 P3.6/~{INT2}/RXD_2, 25 P3.7/~{INT3}/TXD_2, 26 P4.1, 27 P4.2/~{WR}, 28 P4.3, 29 P4.4/~{RD}, 30 P2.0/A8/RSTOUT_LOW, 31 P2.1/A9/SCLK_2, 32 P2.2/A10, 33 P2.3/A11, 34 P2.4/A12, 35 P2.5/A13, 36 P2.6/A14, 37 P2.7/A15, 38 P4.5/ALE, 39 P4.6, 40 P0.0/AD0, 41 P0.1/AD1, 42 P0.2/AD2, 43 P0.3/AD3, 44 P0.4/AD4

## STC15W1K16S_PDIP40
designator U?
footprint DIP40
pins: 1 P0.0/AD0, 2 P0.1/AD1, 3 P0.2/AD2, 4 P0.3/AD3, 5 P0.4/AD4, 6 P0.5/AD5, 7 P0.6/AD6, 8 P0.7/AD7, 9 P1.0, 10 P1.1, 11 P1.2/SS/CMPO, 12 P1.3/MOSI, 13 P1.4/MISO, 14 P1.5/SCLK, 15 P1.6/RXD_3, 16 P1.7/TXD_3, 17 P5.4/RST/MCLKO/CMP-, 18 VCC, 19 P5.5/CMP+, 20 GND, 21 P3.0/RXD/~{INT4}/T2CLKO, 22 P3.1/TXD/T2, 23 P3.2/INT0, 24 P3.3/INT1, 25 P3.4/T0/T1CLKO, 26 P3.5/T1/T0CLKO, 27 P3.6/~{INT2}/RXD_2, 28 P3.7/~{INT3}/TXD_2, 29 P4.1, 30 P4.2/~{WR}, 31 P4.4/~{RD}, 32 P2.0/A8/RSTOUT_LOW, 33 P2.1/A9/SCLK_2, 34 P2.2/A10, 35 P2.3/A11, 36 P2.4/A12, 37 P2.5/A13, 38 P2.6/A14, 39 P2.7/A15, 40 P4.5/ALE

## STC15W1K16S_PLCC44
designator U?
footprint PLCC44
pins: 1 P4.6, 2 P0.0/AD0, 3 P0.1/AD1, 4 P0.2/AD2, 5 P0.3/AD3, 6 P0.4/AD4, 7 P0.5/AD5, 8 P0.6/AD6, 9 P0.7/AD7, 10 P1.0, 11 P1.1, 12 P4.7, 13 P1.2/SS/CMPO, 14 P1.3/MOSI, 15 P1.4/MISO, 16 P1.5/SCLK, 17 P1.6/RXD_3, 18 P1.7/TXD_3, 19 P5.4/RST/MCLKO/CMP-, 20 VCC, 21 P5.5/CMP+, 22 GND, 23 P4.0, 24 P3.0/RXD/~{INT4}/T2CLKO, 25 P3.1/TXD/T2, 26 P3.2/INT0, 27 P3.3/INT1, 28 P3.4/T0/T1CLKO, 29 P3.5/T1/T0CLKO, 30 P3.6/~{INT2}/RXD_2, 31 P3.7/~{INT3}/TXD_2, 32 P4.1, 33 P4.2/~{WR}, 34 P4.3, 35 P4.4/~{RD}, 36 P2.0/A8/RSTOUT_LOW, 37 P2.1/A9/SCLK_2, 38 P2.2/A10, 39 P2.3/A11, 40 P2.4/A12, 41 P2.5/A13, 42 P2.6/A14, 43 P2.7/A15, 44 P4.5/ALE

## STC15W1K16S_SOP28_SKDIP28
designator U?
footprint SKDIP28
footprint SOP28
footprint TSSOP28
pins: 1 P2.6/A14, 2 P2.7/A15, 3 P1.0, 4 P1.1, 5 P1.2/SS/CMPO, 6 P1.3/MOSI, 7 P1.4/MISO, 8 P1.5/SCLK, 9 P1.6/RXD_3, 10 P1.7/TXD_3, 11 P5.4/RST/MCLKO/CMP-, 12 VCC, 13 P5.5/CMP+, 14 GND, 15 P3.0/RXD/~{INT4}/T2CLKO, 16 P3.1/TXD/T2, 17 P3.2/INT0, 18 P3.3/INT1, 19 P3.4/T0/T1CLKO, 20 P3.5/T1/T0CLKO, 21 P3.6/~{INT2}/RXD_2, 22 P3.7/~{INT3}/TXD_2, 23 P2.0/A8/RSTOUT_LOW, 24 P2.1/A9/SCLK_2, 25 P2.2/A10, 26 P2.3/A11, 27 P2.4/A12, 28 P2.5/A13

## STC15W1K16S_SOP32
designator U?
footprint SOP32
pins: 1 P0.0/AD0, 2 P0.1/AD1, 3 P0.2/AD2, 4 P0.3/AD3, 5 P1.0, 6 P1.1, 7 P1.2/SS/CMPO, 8 P1.3/MOSI, 9 P1.4/MISO, 10 P1.5/SCLK, 11 P1.6/RXD_3, 12 P1.7/TXD_3, 13 P5.4/RST/MCLKO/CMP-, 14 VCC, 15 P5.5/CMP+, 16 GND, 17 P3.0/RXD/~{INT4}/T2CLKO, 18 P3.1/TXD/T2, 19 P3.2/INT0, 20 P3.3/INT1, 21 P3.4/T0/T1CLKO, 22 P3.5/T1/T0CLKO, 23 P3.6/~{INT2}/RXD_2, 24 P3.7/~{INT3}/TXD_2, 25 P2.0/A8/RSTOUT_LOW, 26 P2.1/A9/SCLK_2, 27 P2.2/A10, 28 P2.3/A11, 29 P2.4/A12, 30 P2.5/A13, 31 P2.6/A14, 32 P2.7/A15

## STC15W1K16S_TSSOP20
designator U?
footprint TSSOP20
pins: 1 P1.0, 2 P1.1, 3 P1.4/MISO, 4 P1.5/SCLK, 5 P1.6/RxD_3/MCLKO_2, 6 P1.7/TxD_3, 7 P5.4/RST/MCLKO/CMP-, 8 Vcc, 9 P5.5/CMP+, 10 Gnd, 11 P3.0/RxD/~{INT4}/T2CLKO, 12 P3.1/TxD/T2, 13 P3.2/INT0, 14 P3.3/INT1, 15 P3.4/T0/T1CLKO, 16 P3.5/T1/T0CLKO, 17 P3.6/~{INT2}/RxD_2, 18 P3.7/~{INT3}/TxD_2, 19 P1.3/MOSI, 20 P1.2/SS/CMPO

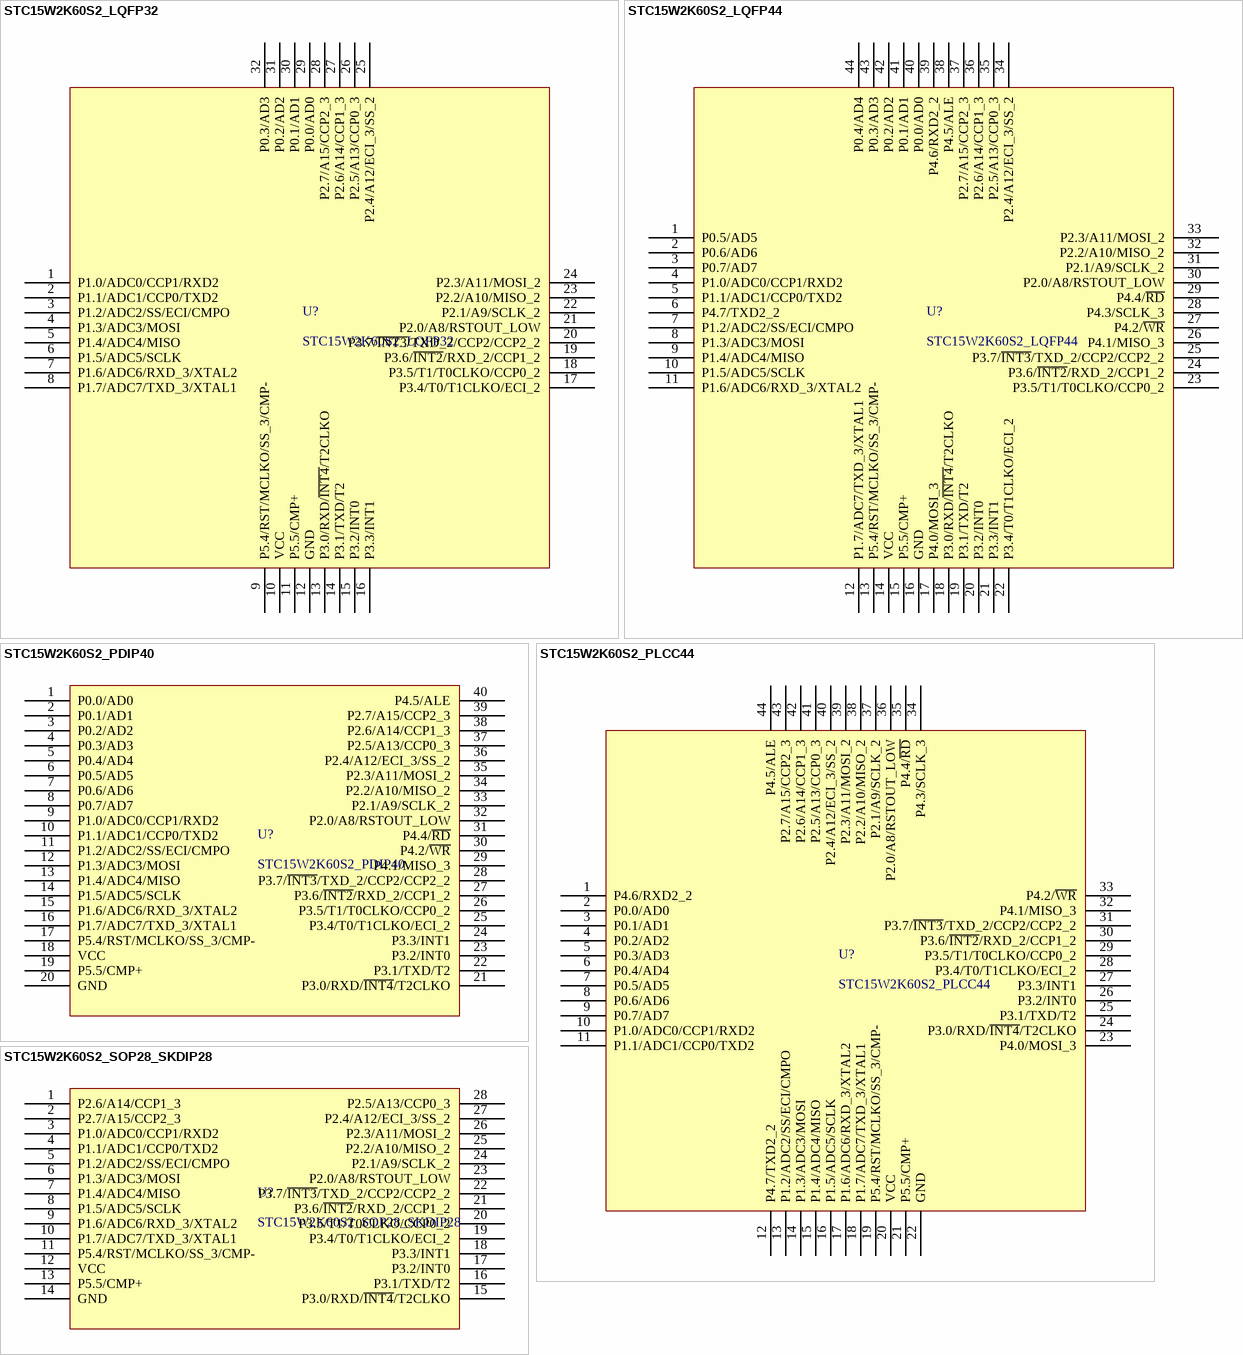
[diagram p4: symbols STC15W2K60S2_LQFP32 to STC15W2K60S2_SOP28_SKDIP28]

## STC15W2K60S2_LQFP32
designator U?
footprint LQFP32
pins: 1 P1.0/ADC0/CCP1/RXD2, 2 P1.1/ADC1/CCP0/TXD2, 3 P1.2/ADC2/SS/ECI/CMPO, 4 P1.3/ADC3/MOSI, 5 P1.4/ADC4/MISO, 6 P1.5/ADC5/SCLK, 7 P1.6/ADC6/RXD_3/XTAL2, 8 P1.7/ADC7/TXD_3/XTAL1, 9 P5.4/RST/MCLKO/SS_3/CMP-, 10 VCC, 11 P5.5/CMP+, 12 GND, 13 P3.0/RXD/~{INT4}/T2CLKO, 14 P3.1/TXD/T2, 15 P3.2/INT0, 16 P3.3/INT1, 17 P3.4/T0/T1CLKO/ECI_2, 18 P3.5/T1/T0CLKO/CCP0_2, 19 P3.6/~{INT2}/RXD_2/CCP1_2, 20 P3.7/~{INT3}/TXD_2/CCP2/CCP2_2, 21 P2.0/A8/RSTOUT_LOW, 22 P2.1/A9/SCLK_2, 23 P2.2/A10/MISO_2, 24 P2.3/A11/MOSI_2, 25 P2.4/A12/ECI_3/SS_2, 26 P2.5/A13/CCP0_3, 27 P2.6/A14/CCP1_3, 28 P2.7/A15/CCP2_3, 29 P0.0/AD0, 30 P0.1/AD1, 31 P0.2/AD2, 32 P0.3/AD3

## STC15W2K60S2_LQFP44
designator U?
footprint LQFP44
footprint PQFP44
pins: 1 P0.5/AD5, 2 P0.6/AD6, 3 P0.7/AD7, 4 P1.0/ADC0/CCP1/RXD2, 5 P1.1/ADC1/CCP0/TXD2, 6 P4.7/TXD2_2, 7 P1.2/ADC2/SS/ECI/CMPO, 8 P1.3/ADC3/MOSI, 9 P1.4/ADC4/MISO, 10 P1.5/ADC5/SCLK, 11 P1.6/ADC6/RXD_3/XTAL2, 12 P1.7/ADC7/TXD_3/XTAL1, 13 P5.4/RST/MCLKO/SS_3/CMP-, 14 VCC, 15 P5.5/CMP+, 16 GND, 17 P4.0/MOSI_3, 18 P3.0/RXD/~{INT4}/T2CLKO, 19 P3.1/TXD/T2, 20 P3.2/INT0, 21 P3.3/INT1, 22 P3.4/T0/T1CLKO/ECI_2, 23 P3.5/T1/T0CLKO/CCP0_2, 24 P3.6/~{INT2}/RXD_2/CCP1_2, 25 P3.7/~{INT3}/TXD_2/CCP2/CCP2_2, 26 P4.1/MISO_3, 27 P4.2/~{WR}, 28 P4.3/SCLK_3, 29 P4.4/~{RD}, 30 P2.0/A8/RSTOUT_LOW, 31 P2.1/A9/SCLK_2, 32 P2.2/A10/MISO_2, 33 P2.3/A11/MOSI_2, 34 P2.4/A12/ECI_3/SS_2, 35 P2.5/A13/CCP0_3, 36 P2.6/A14/CCP1_3, 37 P2.7/A15/CCP2_3, 38 P4.5/ALE, 39 P4.6/RXD2_2, 40 P0.0/AD0, 41 P0.1/AD1, 42 P0.2/AD2, 43 P0.3/AD3, 44 P0.4/AD4

## STC15W2K60S2_PDIP40
designator U?
footprint DIP40
pins: 1 P0.0/AD0, 2 P0.1/AD1, 3 P0.2/AD2, 4 P0.3/AD3, 5 P0.4/AD4, 6 P0.5/AD5, 7 P0.6/AD6, 8 P0.7/AD7, 9 P1.0/ADC0/CCP1/RXD2, 10 P1.1/ADC1/CCP0/TXD2, 11 P1.2/ADC2/SS/ECI/CMPO, 12 P1.3/ADC3/MOSI, 13 P1.4/ADC4/MISO, 14 P1.5/ADC5/SCLK, 15 P1.6/ADC6/RXD_3/XTAL2, 16 P1.7/ADC7/TXD_3/XTAL1, 17 P5.4/RST/MCLKO/SS_3/CMP-, 18 VCC, 19 P5.5/CMP+, 20 GND, 21 P3.0/RXD/~{INT4}/T2CLKO, 22 P3.1/TXD/T2, 23 P3.2/INT0, 24 P3.3/INT1, 25 P3.4/T0/T1CLKO/ECI_2, 26 P3.5/T1/T0CLKO/CCP0_2, 27 P3.6/~{INT2}/RXD_2/CCP1_2, 28 P3.7/~{INT3}/TXD_2/CCP2/CCP2_2, 29 P4.1/MISO_3, 30 P4.2/~{WR}, 31 P4.4/~{RD}, 32 P2.0/A8/RSTOUT_LOW, 33 P2.1/A9/SCLK_2, 34 P2.2/A10/MISO_2, 35 P2.3/A11/MOSI_2, 36 P2.4/A12/ECI_3/SS_2, 37 P2.5/A13/CCP0_3, 38 P2.6/A14/CCP1_3, 39 P2.7/A15/CCP2_3, 40 P4.5/ALE

## STC15W2K60S2_PLCC44
designator U?
footprint PLCC44
pins: 1 P4.6/RXD2_2, 2 P0.0/AD0, 3 P0.1/AD1, 4 P0.2/AD2, 5 P0.3/AD3, 6 P0.4/AD4, 7 P0.5/AD5, 8 P0.6/AD6, 9 P0.7/AD7, 10 P1.0/ADC0/CCP1/RXD2, 11 P1.1/ADC1/CCP0/TXD2, 12 P4.7/TXD2_2, 13 P1.2/ADC2/SS/ECI/CMPO, 14 P1.3/ADC3/MOSI, 15 P1.4/ADC4/MISO, 16 P1.5/ADC5/SCLK, 17 P1.6/ADC6/RXD_3/XTAL2, 18 P1.7/ADC7/TXD_3/XTAL1, 19 P5.4/RST/MCLKO/SS_3/CMP-, 20 VCC, 21 P5.5/CMP+, 22 GND, 23 P4.0/MOSI_3, 24 P3.0/RXD/~{INT4}/T2CLKO, 25 P3.1/TXD/T2, 26 P3.2/INT0, 27 P3.3/INT1, 28 P3.4/T0/T1CLKO/ECI_2, 29 P3.5/T1/T0CLKO/CCP0_2, 30 P3.6/~{INT2}/RXD_2/CCP1_2, 31 P3.7/~{INT3}/TXD_2/CCP2/CCP2_2, 32 P4.1/MISO_3, 33 P4.2/~{WR}, 34 P4.3/SCLK_3, 35 P4.4/~{RD}, 36 P2.0/A8/RSTOUT_LOW, 37 P2.1/A9/SCLK_2, 38 P2.2/A10/MISO_2, 39 P2.3/A11/MOSI_2, 40 P2.4/A12/ECI_3/SS_2, 41 P2.5/A13/CCP0_3, 42 P2.6/A14/CCP1_3, 43 P2.7/A15/CCP2_3, 44 P4.5/ALE

## STC15W2K60S2_SOP28_SKDIP28
designator U?
footprint SKDIP28
footprint SOP28
footprint TSSOP28
pins: 1 P2.6/A14/CCP1_3, 2 P2.7/A15/CCP2_3, 3 P1.0/ADC0/CCP1/RXD2, 4 P1.1/ADC1/CCP0/TXD2, 5 P1.2/ADC2/SS/ECI/CMPO, 6 P1.3/ADC3/MOSI, 7 P1.4/ADC4/MISO, 8 P1.5/ADC5/SCLK, 9 P1.6/ADC6/RXD_3/XTAL2, 10 P1.7/ADC7/TXD_3/XTAL1, 11 P5.4/RST/MCLKO/SS_3/CMP-, 12 VCC, 13 P5.5/CMP+, 14 GND, 15 P3.0/RXD/~{INT4}/T2CLKO, 16 P3.1/TXD/T2, 17 P3.2/INT0, 18 P3.3/INT1, 19 P3.4/T0/T1CLKO/ECI_2, 20 P3.5/T1/T0CLKO/CCP0_2, 21 P3.6/~{INT2}/RXD_2/CCP1_2, 22 P3.7/~{INT3}/TXD_2/CCP2/CCP2_2, 23 P2.0/A8/RSTOUT_LOW, 24 P2.1/A9/SCLK_2, 25 P2.2/A10/MISO_2, 26 P2.3/A11/MOSI_2, 27 P2.4/A12/ECI_3/SS_2, 28 P2.5/A13/CCP0_3

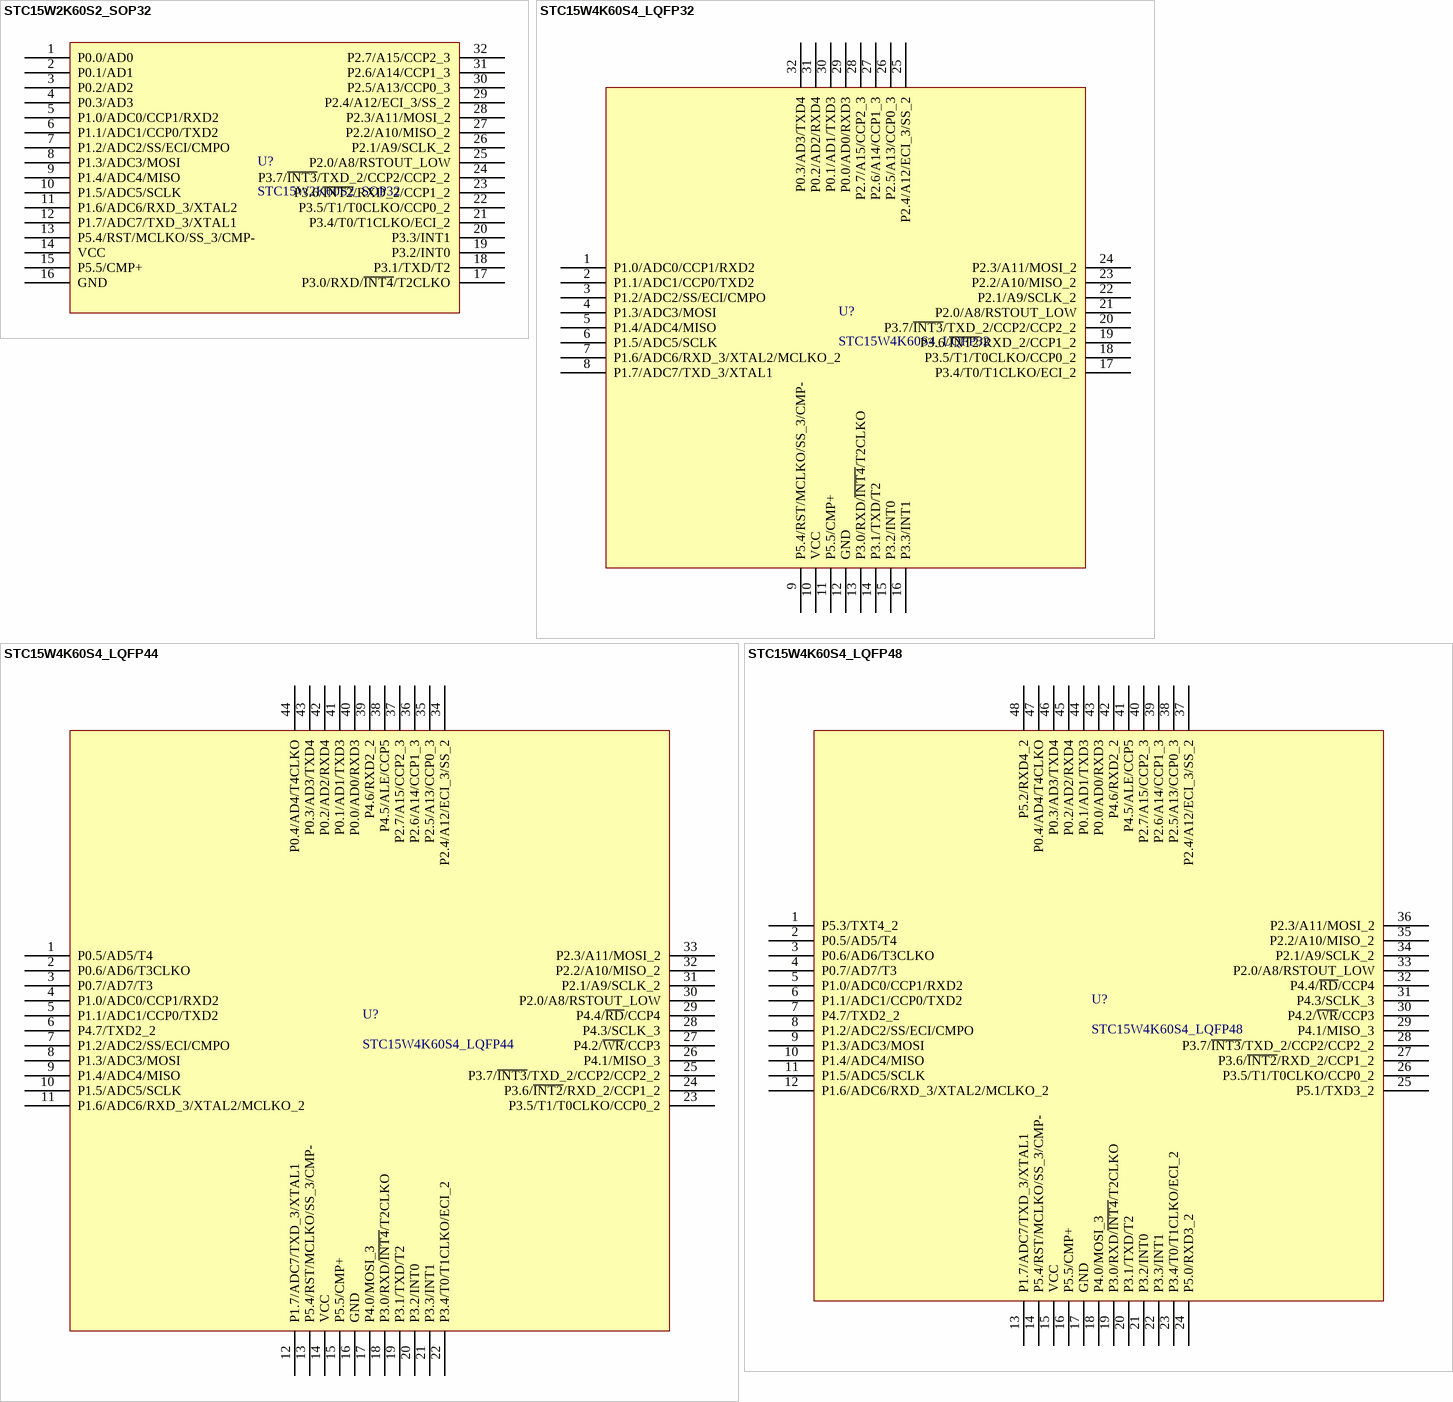
[diagram p5: symbols STC15W2K60S2_SOP32 to STC15W4K60S4_LQFP48]

## STC15W2K60S2_SOP32
designator U?
footprint SOP32
pins: 1 P0.0/AD0, 2 P0.1/AD1, 3 P0.2/AD2, 4 P0.3/AD3, 5 P1.0/ADC0/CCP1/RXD2, 6 P1.1/ADC1/CCP0/TXD2, 7 P1.2/ADC2/SS/ECI/CMPO, 8 P1.3/ADC3/MOSI, 9 P1.4/ADC4/MISO, 10 P1.5/ADC5/SCLK, 11 P1.6/ADC6/RXD_3/XTAL2, 12 P1.7/ADC7/TXD_3/XTAL1, 13 P5.4/RST/MCLKO/SS_3/CMP-, 14 VCC, 15 P5.5/CMP+, 16 GND, 17 P3.0/RXD/~{INT4}/T2CLKO, 18 P3.1/TXD/T2, 19 P3.2/INT0, 20 P3.3/INT1, 21 P3.4/T0/T1CLKO/ECI_2, 22 P3.5/T1/T0CLKO/CCP0_2, 23 P3.6/~{INT2}/RXD_2/CCP1_2, 24 P3.7/~{INT3}/TXD_2/CCP2/CCP2_2, 25 P2.0/A8/RSTOUT_LOW, 26 P2.1/A9/SCLK_2, 27 P2.2/A10/MISO_2, 28 P2.3/A11/MOSI_2, 29 P2.4/A12/ECI_3/SS_2, 30 P2.5/A13/CCP0_3, 31 P2.6/A14/CCP1_3, 32 P2.7/A15/CCP2_3

## STC15W4K60S4_LQFP32
designator U?
footprint LQFP32
pins: 1 P1.0/ADC0/CCP1/RXD2, 2 P1.1/ADC1/CCP0/TXD2, 3 P1.2/ADC2/SS/ECI/CMPO, 4 P1.3/ADC3/MOSI, 5 P1.4/ADC4/MISO, 6 P1.5/ADC5/SCLK, 7 P1.6/ADC6/RXD_3/XTAL2/MCLKO_2, 8 P1.7/ADC7/TXD_3/XTAL1, 9 P5.4/RST/MCLKO/SS_3/CMP-, 10 VCC, 11 P5.5/CMP+, 12 GND, 13 P3.0/RXD/~{INT4}/T2CLKO, 14 P3.1/TXD/T2, 15 P3.2/INT0, 16 P3.3/INT1, 17 P3.4/T0/T1CLKO/ECI_2, 18 P3.5/T1/T0CLKO/CCP0_2, 19 P3.6/~{INT2}/RXD_2/CCP1_2, 20 P3.7/~{INT3}/TXD_2/CCP2/CCP2_2, 21 P2.0/A8/RSTOUT_LOW, 22 P2.1/A9/SCLK_2, 23 P2.2/A10/MISO_2, 24 P2.3/A11/MOSI_2, 25 P2.4/A12/ECI_3/SS_2, 26 P2.5/A13/CCP0_3, 27 P2.6/A14/CCP1_3, 28 P2.7/A15/CCP2_3, 29 P0.0/AD0/RXD3, 30 P0.1/AD1/TXD3, 31 P0.2/AD2/RXD4, 32 P0.3/AD3/TXD4

## STC15W4K60S4_LQFP44
designator U?
footprint LQFP44
footprint PQFP44
pins: 1 P0.5/AD5/T4, 2 P0.6/AD6/T3CLKO, 3 P0.7/AD7/T3, 4 P1.0/ADC0/CCP1/RXD2, 5 P1.1/ADC1/CCP0/TXD2, 6 P4.7/TXD2_2, 7 P1.2/ADC2/SS/ECI/CMPO, 8 P1.3/ADC3/MOSI, 9 P1.4/ADC4/MISO, 10 P1.5/ADC5/SCLK, 11 P1.6/ADC6/RXD_3/XTAL2/MCLKO_2, 12 P1.7/ADC7/TXD_3/XTAL1, 13 P5.4/RST/MCLKO/SS_3/CMP-, 14 VCC, 15 P5.5/CMP+, 16 GND, 17 P4.0/MOSI_3, 18 P3.0/RXD/~{INT4}/T2CLKO, 19 P3.1/TXD/T2, 20 P3.2/INT0, 21 P3.3/INT1, 22 P3.4/T0/T1CLKO/ECI_2, 23 P3.5/T1/T0CLKO/CCP0_2, 24 P3.6/~{INT2}/RXD_2/CCP1_2, 25 P3.7/~{INT3}/TXD_2/CCP2/CCP2_2, 26 P4.1/MISO_3, 27 P4.2/~{WR}/CCP3, 28 P4.3/SCLK_3, 29 P4.4/~{RD}/CCP4, 30 P2.0/A8/RSTOUT_LOW, 31 P2.1/A9/SCLK_2, 32 P2.2/A10/MISO_2, 33 P2.3/A11/MOSI_2, 34 P2.4/A12/ECI_3/SS_2, 35 P2.5/A13/CCP0_3, 36 P2.6/A14/CCP1_3, 37 P2.7/A15/CCP2_3, 38 P4.5/ALE/CCP5, 39 P4.6/RXD2_2, 40 P0.0/AD0/RXD3, 41 P0.1/AD1/TXD3, 42 P0.2/AD2/RXD4, 43 P0.3/AD3/TXD4, 44 P0.4/AD4/T4CLKO

## STC15W4K60S4_LQFP48
designator U?
footprint LQFP48
pins: 1 P5.3/TXT4_2, 2 P0.5/AD5/T4, 3 P0.6/AD6/T3CLKO, 4 P0.7/AD7/T3, 5 P1.0/ADC0/CCP1/RXD2, 6 P1.1/ADC1/CCP0/TXD2, 7 P4.7/TXD2_2, 8 P1.2/ADC2/SS/ECI/CMPO, 9 P1.3/ADC3/MOSI, 10 P1.4/ADC4/MISO, 11 P1.5/ADC5/SCLK, 12 P1.6/ADC6/RXD_3/XTAL2/MCLKO_2, 13 P1.7/ADC7/TXD_3/XTAL1, 14 P5.4/RST/MCLKO/SS_3/CMP-, 15 VCC, 16 P5.5/CMP+, 17 GND, 18 P4.0/MOSI_3, 19 P3.0/RXD/~{INT4}/T2CLKO, 20 P3.1/TXD/T2, 21 P3.2/INT0, 22 P3.3/INT1, 23 P3.4/T0/T1CLKO/ECI_2, 24 P5.0/RXD3_2, 25 P5.1/TXD3_2, 26 P3.5/T1/T0CLKO/CCP0_2, 27 P3.6/~{INT2}/RXD_2/CCP1_2, 28 P3.7/~{INT3}/TXD_2/CCP2/CCP2_2, 29 P4.1/MISO_3, 30 P4.2/~{WR}/CCP3, 31 P4.3/SCLK_3, 32 P4.4/~{RD}/CCP4, 33 P2.0/A8/RSTOUT_LOW, 34 P2.1/A9/SCLK_2, 35 P2.2/A10/MISO_2, 36 P2.3/A11/MOSI_2, 37 P2.4/A12/ECI_3/SS_2, 38 P2.5/A13/CCP0_3, 39 P2.6/A14/CCP1_3, 40 P2.7/A15/CCP2_3, 41 P4.5/ALE/CCP5, 42 P4.6/RXD2_2, 43 P0.0/AD0/RXD3, 44 P0.1/AD1/TXD3, 45 P0.2/AD2/RXD4, 46 P0.3/AD3/TXD4, 47 P0.4/AD4/T4CLKO, 48 P5.2/RXD4_2

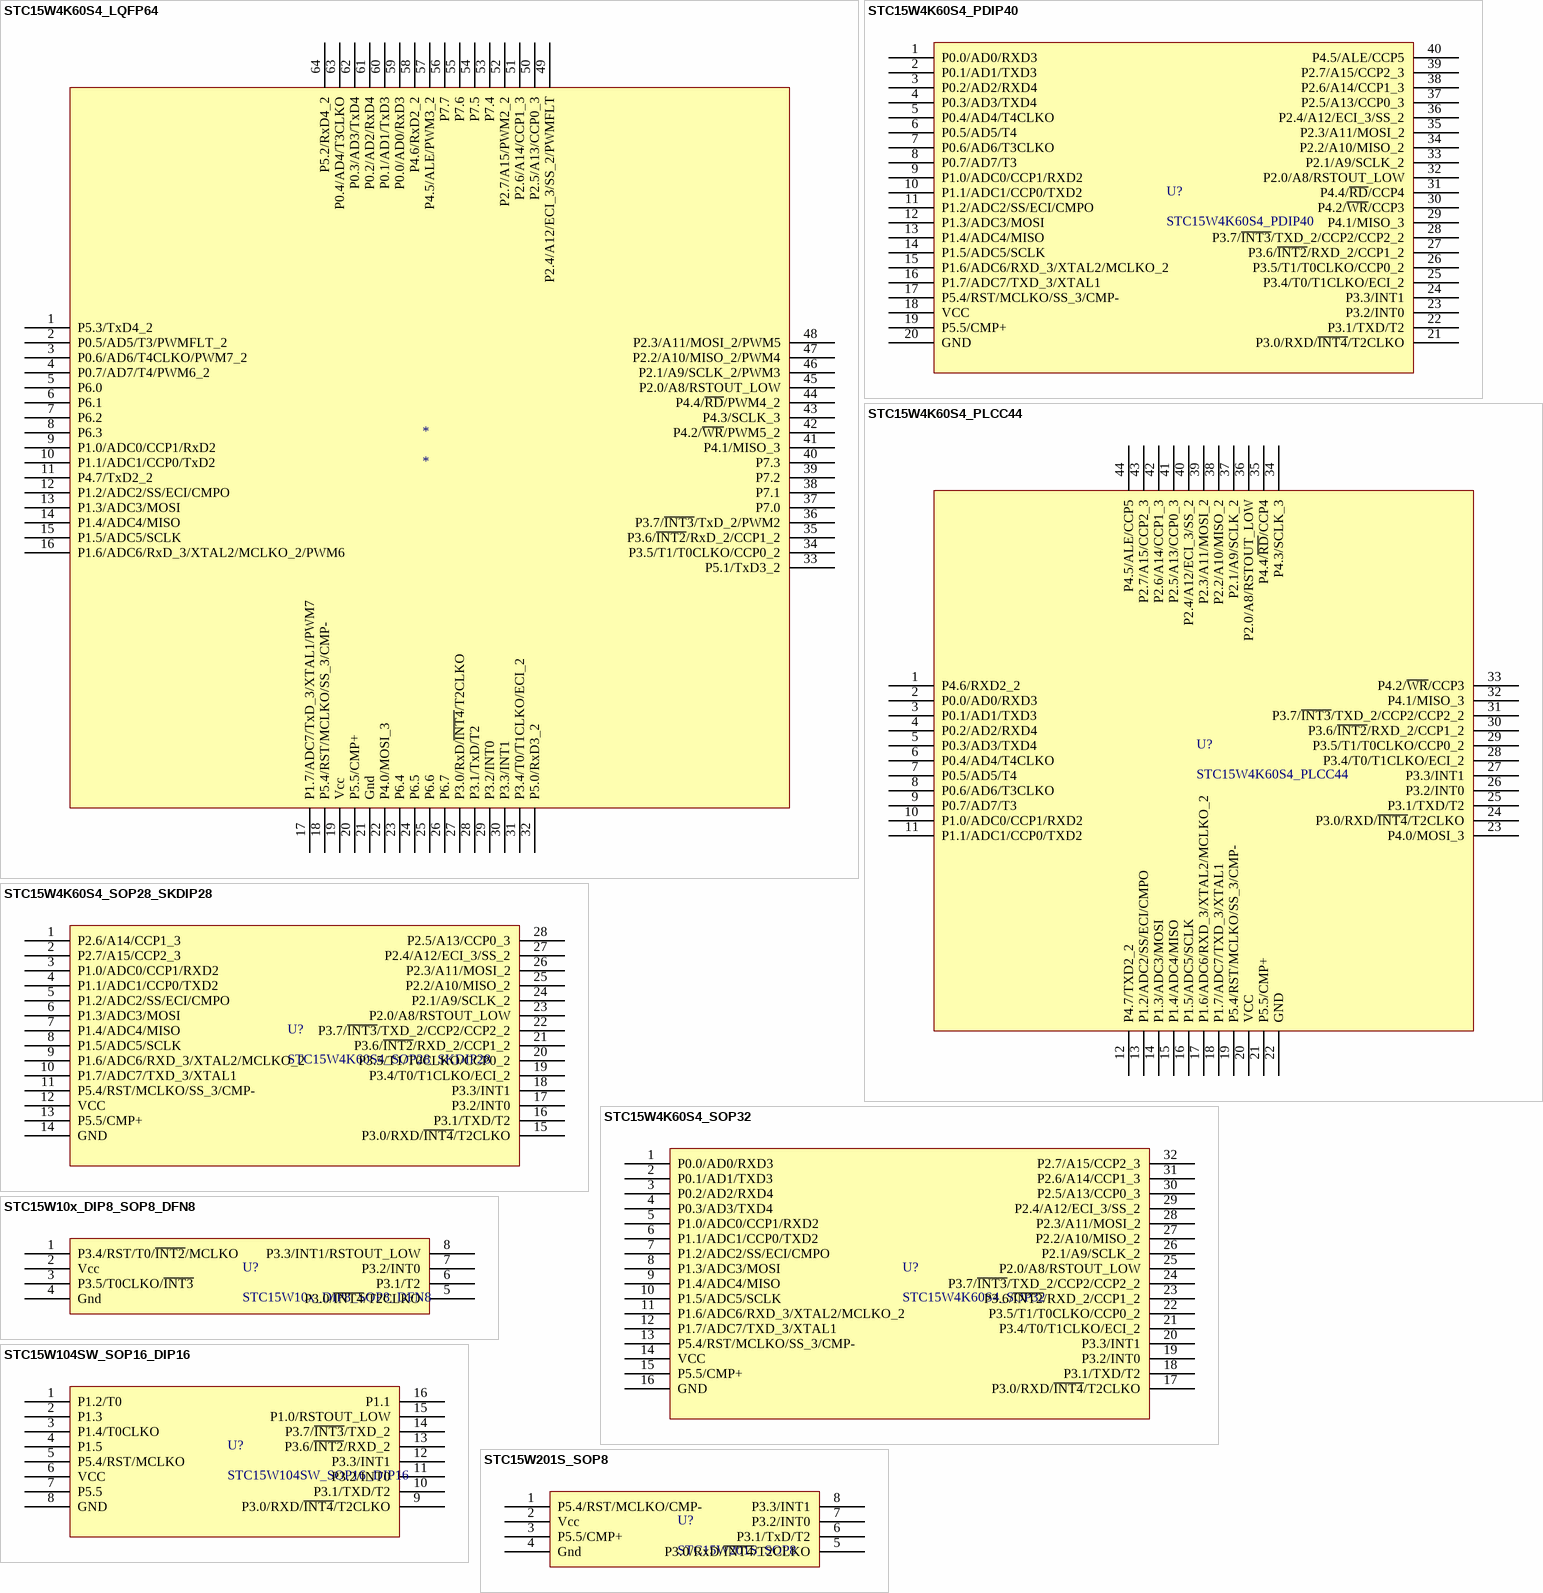
[diagram p6: symbols STC15W4K60S4_LQFP64 to STC15W201S_SOP8]

## STC15W4K60S4_LQFP64
designator *
pins: 1 P5.3/TxD4_2, 2 P0.5/AD5/T3/PWMFLT_2, 3 P0.6/AD6/T4CLKO/PWM7_2, 4 P0.7/AD7/T4/PWM6_2, 5 P6.0, 6 P6.1, 7 P6.2, 8 P6.3, 9 P1.0/ADC0/CCP1/RxD2, 10 P1.1/ADC1/CCP0/TxD2, 11 P4.7/TxD2_2, 12 P1.2/ADC2/SS/ECI/CMPO, 13 P1.3/ADC3/MOSI, 14 P1.4/ADC4/MISO, 15 P1.5/ADC5/SCLK, 16 P1.6/ADC6/RxD_3/XTAL2/MCLKO_2/PWM6, 17 P1.7/ADC7/TxD_3/XTAL1/PWM7, 18 P5.4/RST/MCLKO/SS_3/CMP-, 19 Vcc, 20 P5.5/CMP+, 21 Gnd, 22 P4.0/MOSI_3, 23 P6.4, 24 P6.5, 25 P6.6, 26 P6.7, 27 P3.0/RxD/~{INT4}/T2CLKO, 28 P3.1/TxD/T2, 29 P3.2/INT0, 30 P3.3/INT1, 31 P3.4/T0/T1CLKO/ECI_2, 32 P5.0/RxD3_2, 33 P5.1/TxD3_2, 34 P3.5/T1/T0CLKO/CCP0_2, 35 P3.6/~{INT2}/RxD_2/CCP1_2, 36 P3.7/~{INT3}/TxD_2/PWM2, 37 P7.0, 38 P7.1, 39 P7.2, 40 P7.3, 41 P4.1/MISO_3, 42 P4.2/~{WR}/PWM5_2, 43 P4.3/SCLK_3, 44 P4.4/~{RD}/PWM4_2, 45 P2.0/A8/RSTOUT_LOW, 46 P2.1/A9/SCLK_2/PWM3, 47 P2.2/A10/MISO_2/PWM4, 48 P2.3/A11/MOSI_2/PWM5, 49 P2.4/A12/ECI_3/SS_2/PWMFLT, 50 P2.5/A13/CCP0_3, 51 P2.6/A14/CCP1_3, 52 P2.7/A15/PWM2_2, 53 P7.4, 54 P7.5, 55 P7.6, 56 P7.7, 57 P4.5/ALE/PWM3_2, 58 P4.6/RxD2_2, 59 P0.0/AD0/RxD3, 60 P0.1/AD1/TxD3, 61 P0.2/AD2/RxD4, 62 P0.3/AD3/TxD4, 63 P0.4/AD4/T3CLKO, 64 P5.2/RxD4_2

## STC15W4K60S4_PDIP40
designator U?
footprint DIP40
pins: 1 P0.0/AD0/RXD3, 2 P0.1/AD1/TXD3, 3 P0.2/AD2/RXD4, 4 P0.3/AD3/TXD4, 5 P0.4/AD4/T4CLKO, 6 P0.5/AD5/T4, 7 P0.6/AD6/T3CLKO, 8 P0.7/AD7/T3, 9 P1.0/ADC0/CCP1/RXD2, 10 P1.1/ADC1/CCP0/TXD2, 11 P1.2/ADC2/SS/ECI/CMPO, 12 P1.3/ADC3/MOSI, 13 P1.4/ADC4/MISO, 14 P1.5/ADC5/SCLK, 15 P1.6/ADC6/RXD_3/XTAL2/MCLKO_2, 16 P1.7/ADC7/TXD_3/XTAL1, 17 P5.4/RST/MCLKO/SS_3/CMP-, 18 VCC, 19 P5.5/CMP+, 20 GND, 21 P3.0/RXD/~{INT4}/T2CLKO, 22 P3.1/TXD/T2, 23 P3.2/INT0, 24 P3.3/INT1, 25 P3.4/T0/T1CLKO/ECI_2, 26 P3.5/T1/T0CLKO/CCP0_2, 27 P3.6/~{INT2}/RXD_2/CCP1_2, 28 P3.7/~{INT3}/TXD_2/CCP2/CCP2_2, 29 P4.1/MISO_3, 30 P4.2/~{WR}/CCP3, 31 P4.4/~{RD}/CCP4, 32 P2.0/A8/RSTOUT_LOW, 33 P2.1/A9/SCLK_2, 34 P2.2/A10/MISO_2, 35 P2.3/A11/MOSI_2, 36 P2.4/A12/ECI_3/SS_2, 37 P2.5/A13/CCP0_3, 38 P2.6/A14/CCP1_3, 39 P2.7/A15/CCP2_3, 40 P4.5/ALE/CCP5

## STC15W4K60S4_PLCC44
designator U?
footprint PLCC44
pins: 1 P4.6/RXD2_2, 2 P0.0/AD0/RXD3, 3 P0.1/AD1/TXD3, 4 P0.2/AD2/RXD4, 5 P0.3/AD3/TXD4, 6 P0.4/AD4/T4CLKO, 7 P0.5/AD5/T4, 8 P0.6/AD6/T3CLKO, 9 P0.7/AD7/T3, 10 P1.0/ADC0/CCP1/RXD2, 11 P1.1/ADC1/CCP0/TXD2, 12 P4.7/TXD2_2, 13 P1.2/ADC2/SS/ECI/CMPO, 14 P1.3/ADC3/MOSI, 15 P1.4/ADC4/MISO, 16 P1.5/ADC5/SCLK, 17 P1.6/ADC6/RXD_3/XTAL2/MCLKO_2, 18 P1.7/ADC7/TXD_3/XTAL1, 19 P5.4/RST/MCLKO/SS_3/CMP-, 20 VCC, 21 P5.5/CMP+, 22 GND, 23 P4.0/MOSI_3, 24 P3.0/RXD/~{INT4}/T2CLKO, 25 P3.1/TXD/T2, 26 P3.2/INT0, 27 P3.3/INT1, 28 P3.4/T0/T1CLKO/ECI_2, 29 P3.5/T1/T0CLKO/CCP0_2, 30 P3.6/~{INT2}/RXD_2/CCP1_2, 31 P3.7/~{INT3}/TXD_2/CCP2/CCP2_2, 32 P4.1/MISO_3, 33 P4.2/~{WR}/CCP3, 34 P4.3/SCLK_3, 35 P4.4/~{RD}/CCP4, 36 P2.0/A8/RSTOUT_LOW, 37 P2.1/A9/SCLK_2, 38 P2.2/A10/MISO_2, 39 P2.3/A11/MOSI_2, 40 P2.4/A12/ECI_3/SS_2, 41 P2.5/A13/CCP0_3, 42 P2.6/A14/CCP1_3, 43 P2.7/A15/CCP2_3, 44 P4.5/ALE/CCP5

## STC15W4K60S4_SOP28_SKDIP28
designator U?
footprint SKDIP28
footprint SOP28
footprint TSSOP28
pins: 1 P2.6/A14/CCP1_3, 2 P2.7/A15/CCP2_3, 3 P1.0/ADC0/CCP1/RXD2, 4 P1.1/ADC1/CCP0/TXD2, 5 P1.2/ADC2/SS/ECI/CMPO, 6 P1.3/ADC3/MOSI, 7 P1.4/ADC4/MISO, 8 P1.5/ADC5/SCLK, 9 P1.6/ADC6/RXD_3/XTAL2/MCLKO_2, 10 P1.7/ADC7/TXD_3/XTAL1, 11 P5.4/RST/MCLKO/SS_3/CMP-, 12 VCC, 13 P5.5/CMP+, 14 GND, 15 P3.0/RXD/~{INT4}/T2CLKO, 16 P3.1/TXD/T2, 17 P3.2/INT0, 18 P3.3/INT1, 19 P3.4/T0/T1CLKO/ECI_2, 20 P3.5/T1/T0CLKO/CCP0_2, 21 P3.6/~{INT2}/RXD_2/CCP1_2, 22 P3.7/~{INT3}/TXD_2/CCP2/CCP2_2, 23 P2.0/A8/RSTOUT_LOW, 24 P2.1/A9/SCLK_2, 25 P2.2/A10/MISO_2, 26 P2.3/A11/MOSI_2, 27 P2.4/A12/ECI_3/SS_2, 28 P2.5/A13/CCP0_3

## STC15W4K60S4_SOP32
designator U?
footprint SOP32
pins: 1 P0.0/AD0/RXD3, 2 P0.1/AD1/TXD3, 3 P0.2/AD2/RXD4, 4 P0.3/AD3/TXD4, 5 P1.0/ADC0/CCP1/RXD2, 6 P1.1/ADC1/CCP0/TXD2, 7 P1.2/ADC2/SS/ECI/CMPO, 8 P1.3/ADC3/MOSI, 9 P1.4/ADC4/MISO, 10 P1.5/ADC5/SCLK, 11 P1.6/ADC6/RXD_3/XTAL2/MCLKO_2, 12 P1.7/ADC7/TXD_3/XTAL1, 13 P5.4/RST/MCLKO/SS_3/CMP-, 14 VCC, 15 P5.5/CMP+, 16 GND, 17 P3.0/RXD/~{INT4}/T2CLKO, 18 P3.1/TXD/T2, 19 P3.2/INT0, 20 P3.3/INT1, 21 P3.4/T0/T1CLKO/ECI_2, 22 P3.5/T1/T0CLKO/CCP0_2, 23 P3.6/~{INT2}/RXD_2/CCP1_2, 24 P3.7/~{INT3}/TXD_2/CCP2/CCP2_2, 25 P2.0/A8/RSTOUT_LOW, 26 P2.1/A9/SCLK_2, 27 P2.2/A10/MISO_2, 28 P2.3/A11/MOSI_2, 29 P2.4/A12/ECI_3/SS_2, 30 P2.5/A13/CCP0_3, 31 P2.6/A14/CCP1_3, 32 P2.7/A15/CCP2_3

## STC15W10x_DIP8_SOP8_DFN8
designator U?
footprint DFN8
footprint DIP8
footprint SOP8
footprint DIP8_SOP8
pins: 1 P3.4/RST/T0/~{INT2}/MCLKO, 2 Vcc, 3 P3.5/T0CLKO/~{INT3}, 4 Gnd, 5 P3.0/~{INT4}/T2CLKO, 6 P3.1/T2, 7 P3.2/INT0, 8 P3.3/INT1/RSTOUT_LOW

## STC15W104SW_SOP16_DIP16
designator U?
footprint DIP16
footprint SOP16
pins: 1 P1.2/T0, 2 P1.3, 3 P1.4/T0CLKO, 4 P1.5, 5 P5.4/RST/MCLKO, 6 VCC, 7 P5.5, 8 GND, 9 P3.0/RXD/~{INT4}/T2CLKO, 10 P3.1/TXD/T2, 11 P3.2/INT0, 12 P3.3/INT1, 13 P3.6/~{INT2}/RXD_2, 14 P3.7/~{INT3}/TXD_2, 15 P1.0/RSTOUT_LOW, 16 P1.1

## STC15W201S_SOP8
designator U?
footprint SOP8
pins: 1 P5.4/RST/MCLKO/CMP-, 2 Vcc, 3 P5.5/CMP+, 4 Gnd, 5 P3.0/RxD/~{INT4}/T2CLKO, 6 P3.1/TxD/T2, 7 P3.2/INT0, 8 P3.3/INT1

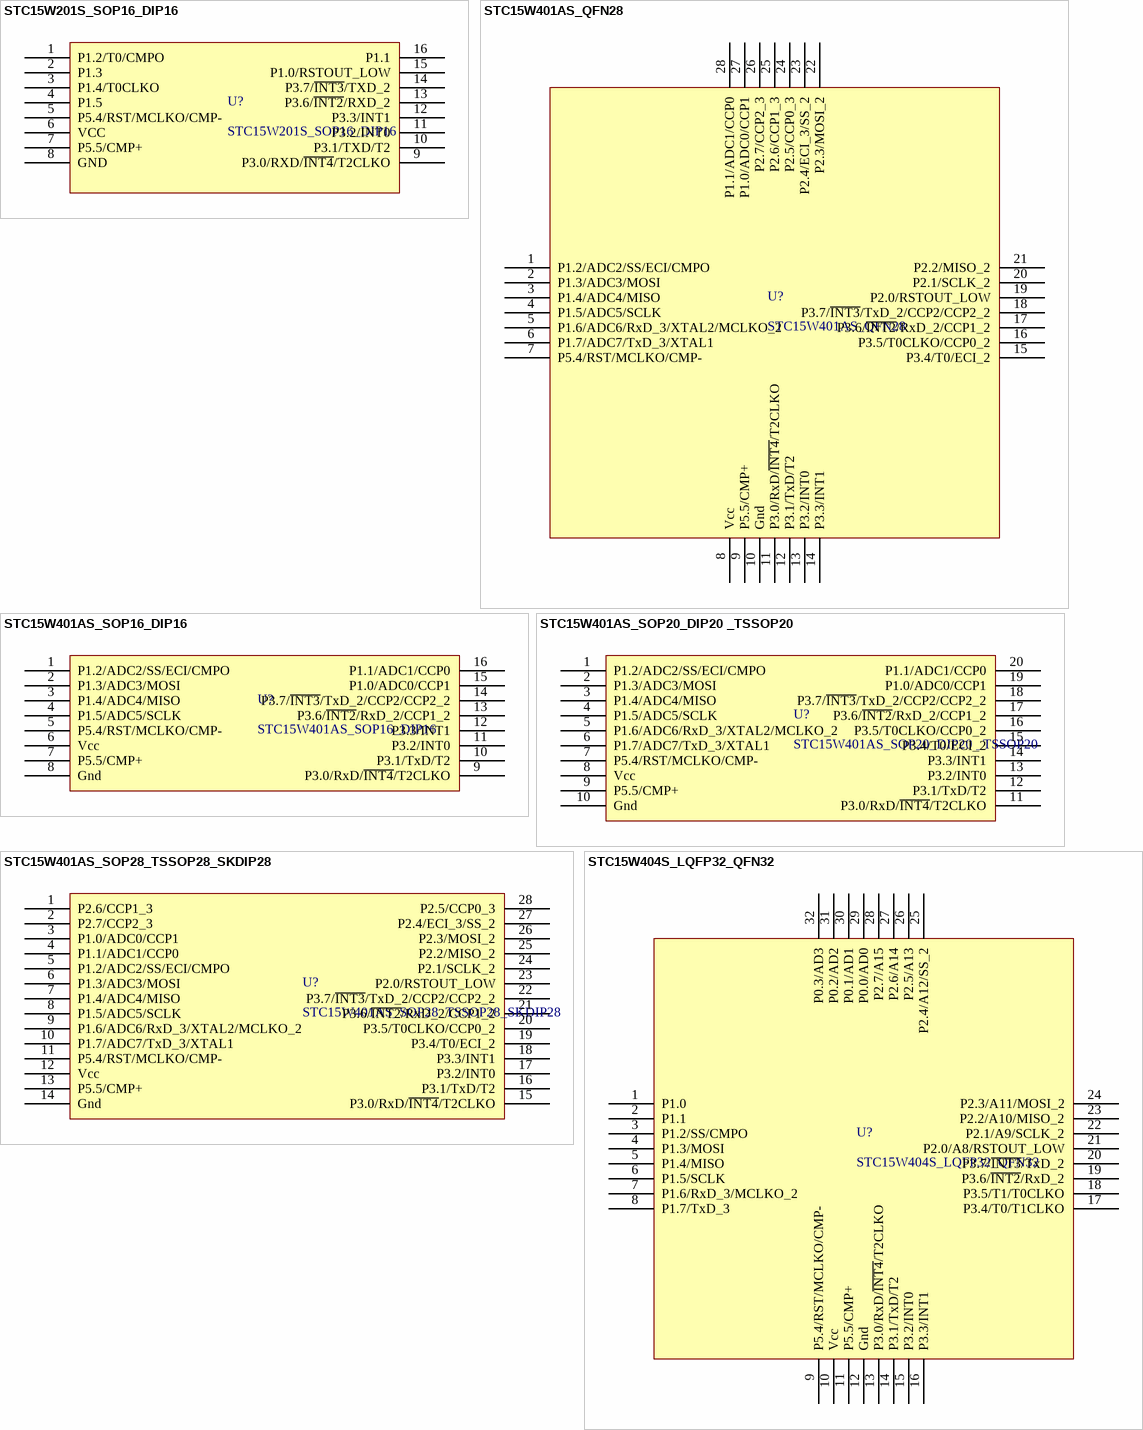
[diagram p7: symbols STC15W201S_SOP16_DIP16 to STC15W404S_LQFP32_QFN32]

## STC15W201S_SOP16_DIP16
designator U?
footprint DIP16
footprint SOP16
pins: 1 P1.2/T0/CMPO, 2 P1.3, 3 P1.4/T0CLKO, 4 P1.5, 5 P5.4/RST/MCLKO/CMP-, 6 VCC, 7 P5.5/CMP+, 8 GND, 9 P3.0/RXD/~{INT4}/T2CLKO, 10 P3.1/TXD/T2, 11 P3.2/INT0, 12 P3.3/INT1, 13 P3.6/~{INT2}/RXD_2, 14 P3.7/~{INT3}/TXD_2, 15 P1.0/RSTOUT_LOW, 16 P1.1

## STC15W401AS_QFN28
designator U?
footprint QFN28
pins: 1 P1.2/ADC2/SS/ECI/CMPO, 2 P1.3/ADC3/MOSI, 3 P1.4/ADC4/MISO, 4 P1.5/ADC5/SCLK, 5 P1.6/ADC6/RxD_3/XTAL2/MCLKO_2, 6 P1.7/ADC7/TxD_3/XTAL1, 7 P5.4/RST/MCLKO/CMP-, 8 Vcc, 9 P5.5/CMP+, 10 Gnd, 11 P3.0/RxD/~{INT4}/T2CLKO, 12 P3.1/TxD/T2, 13 P3.2/INT0, 14 P3.3/INT1, 15 P3.4/T0/ECI_2, 16 P3.5/T0CLKO/CCP0_2, 17 P3.6/~{INT2}/RxD_2/CCP1_2, 18 P3.7/~{INT3}/TxD_2/CCP2/CCP2_2, 19 P2.0/RSTOUT_LOW, 20 P2.1/SCLK_2, 21 P2.2/MISO_2, 22 P2.3/MOSI_2, 23 P2.4/ECI_3/SS_2, 24 P2.5/CCP0_3, 25 P2.6/CCP1_3, 26 P2.7/CCP2_3, 27 P1.0/ADC0/CCP1, 28 P1.1/ADC1/CCP0

## STC15W401AS_SOP16_DIP16
designator U?
footprint SOP16
footprint DIP16
pins: 1 P1.2/ADC2/SS/ECI/CMPO, 2 P1.3/ADC3/MOSI, 3 P1.4/ADC4/MISO, 4 P1.5/ADC5/SCLK, 5 P5.4/RST/MCLKO/CMP-, 6 Vcc, 7 P5.5/CMP+, 8 Gnd, 9 P3.0/RxD/~{INT4}/T2CLKO, 10 P3.1/TxD/T2, 11 P3.2/INT0, 12 P3.3/INT1, 13 P3.6/~{INT2}/RxD_2/CCP1_2, 14 P3.7/~{INT3}/TxD_2/CCP2/CCP2_2, 15 P1.0/ADC0/CCP1, 16 P1.1/ADC1/CCP0

## STC15W401AS_SOP20_DIP20 _TSSOP20
designator U?
footprint SOP20
footprint DIP20
footprint TSSOP20
pins: 1 P1.2/ADC2/SS/ECI/CMPO, 2 P1.3/ADC3/MOSI, 3 P1.4/ADC4/MISO, 4 P1.5/ADC5/SCLK, 5 P1.6/ADC6/RxD_3/XTAL2/MCLKO_2, 6 P1.7/ADC7/TxD_3/XTAL1, 7 P5.4/RST/MCLKO/CMP-, 8 Vcc, 9 P5.5/CMP+, 10 Gnd, 11 P3.0/RxD/~{INT4}/T2CLKO, 12 P3.1/TxD/T2, 13 P3.2/INT0, 14 P3.3/INT1, 15 P3.4/T0/ECI_2, 16 P3.5/T0CLKO/CCP0_2, 17 P3.6/~{INT2}/RxD_2/CCP1_2, 18 P3.7/~{INT3}/TxD_2/CCP2/CCP2_2, 19 P1.0/ADC0/CCP1, 20 P1.1/ADC1/CCP0

## STC15W401AS_SOP28_TSSOP28_SKDIP28
designator U?
footprint SOP28
footprint TSSOP28
footprint SKDIP28
pins: 1 P2.6/CCP1_3, 2 P2.7/CCP2_3, 3 P1.0/ADC0/CCP1, 4 P1.1/ADC1/CCP0, 5 P1.2/ADC2/SS/ECI/CMPO, 6 P1.3/ADC3/MOSI, 7 P1.4/ADC4/MISO, 8 P1.5/ADC5/SCLK, 9 P1.6/ADC6/RxD_3/XTAL2/MCLKO_2, 10 P1.7/ADC7/TxD_3/XTAL1, 11 P5.4/RST/MCLKO/CMP-, 12 Vcc, 13 P5.5/CMP+, 14 Gnd, 15 P3.0/RxD/~{INT4}/T2CLKO, 16 P3.1/TxD/T2, 17 P3.2/INT0, 18 P3.3/INT1, 19 P3.4/T0/ECI_2, 20 P3.5/T0CLKO/CCP0_2, 21 P3.6/~{INT2}/RxD_2/CCP1_2, 22 P3.7/~{INT3}/TxD_2/CCP2/CCP2_2, 23 P2.0/RSTOUT_LOW, 24 P2.1/SCLK_2, 25 P2.2/MISO_2, 26 P2.3/MOSI_2, 27 P2.4/ECI_3/SS_2, 28 P2.5/CCP0_3

## STC15W404S_LQFP32_QFN32
designator U?
footprint LQFP32
footprint QFN32 (Footprint not found)
pins: 1 P1.0, 2 P1.1, 3 P1.2/SS/CMPO, 4 P1.3/MOSI, 5 P1.4/MISO, 6 P1.5/SCLK, 7 P1.6/RxD_3/MCLKO_2, 8 P1.7/TxD_3, 9 P5.4/RST/MCLKO/CMP-, 10 Vcc, 11 P5.5/CMP+, 12 Gnd, 13 P3.0/RxD/~{INT4}/T2CLKO, 14 P3.1/TxD/T2, 15 P3.2/INT0, 16 P3.3/INT1, 17 P3.4/T0/T1CLKO, 18 P3.5/T1/T0CLKO, 19 P3.6/~{INT2}/RxD_2, 20 P3.7/~{INT3}/TxD_2, 21 P2.0/A8/RSTOUT_LOW, 22 P2.1/A9/SCLK_2, 23 P2.2/A10/MISO_2, 24 P2.3/A11/MOSI_2, 25 P2.4/A12/SS_2, 26 P2.5/A13, 27 P2.6/A14, 28 P2.7/A15, 29 P0.0/AD0, 30 P0.1/AD1, 31 P0.2/AD2, 32 P0.3/AD3

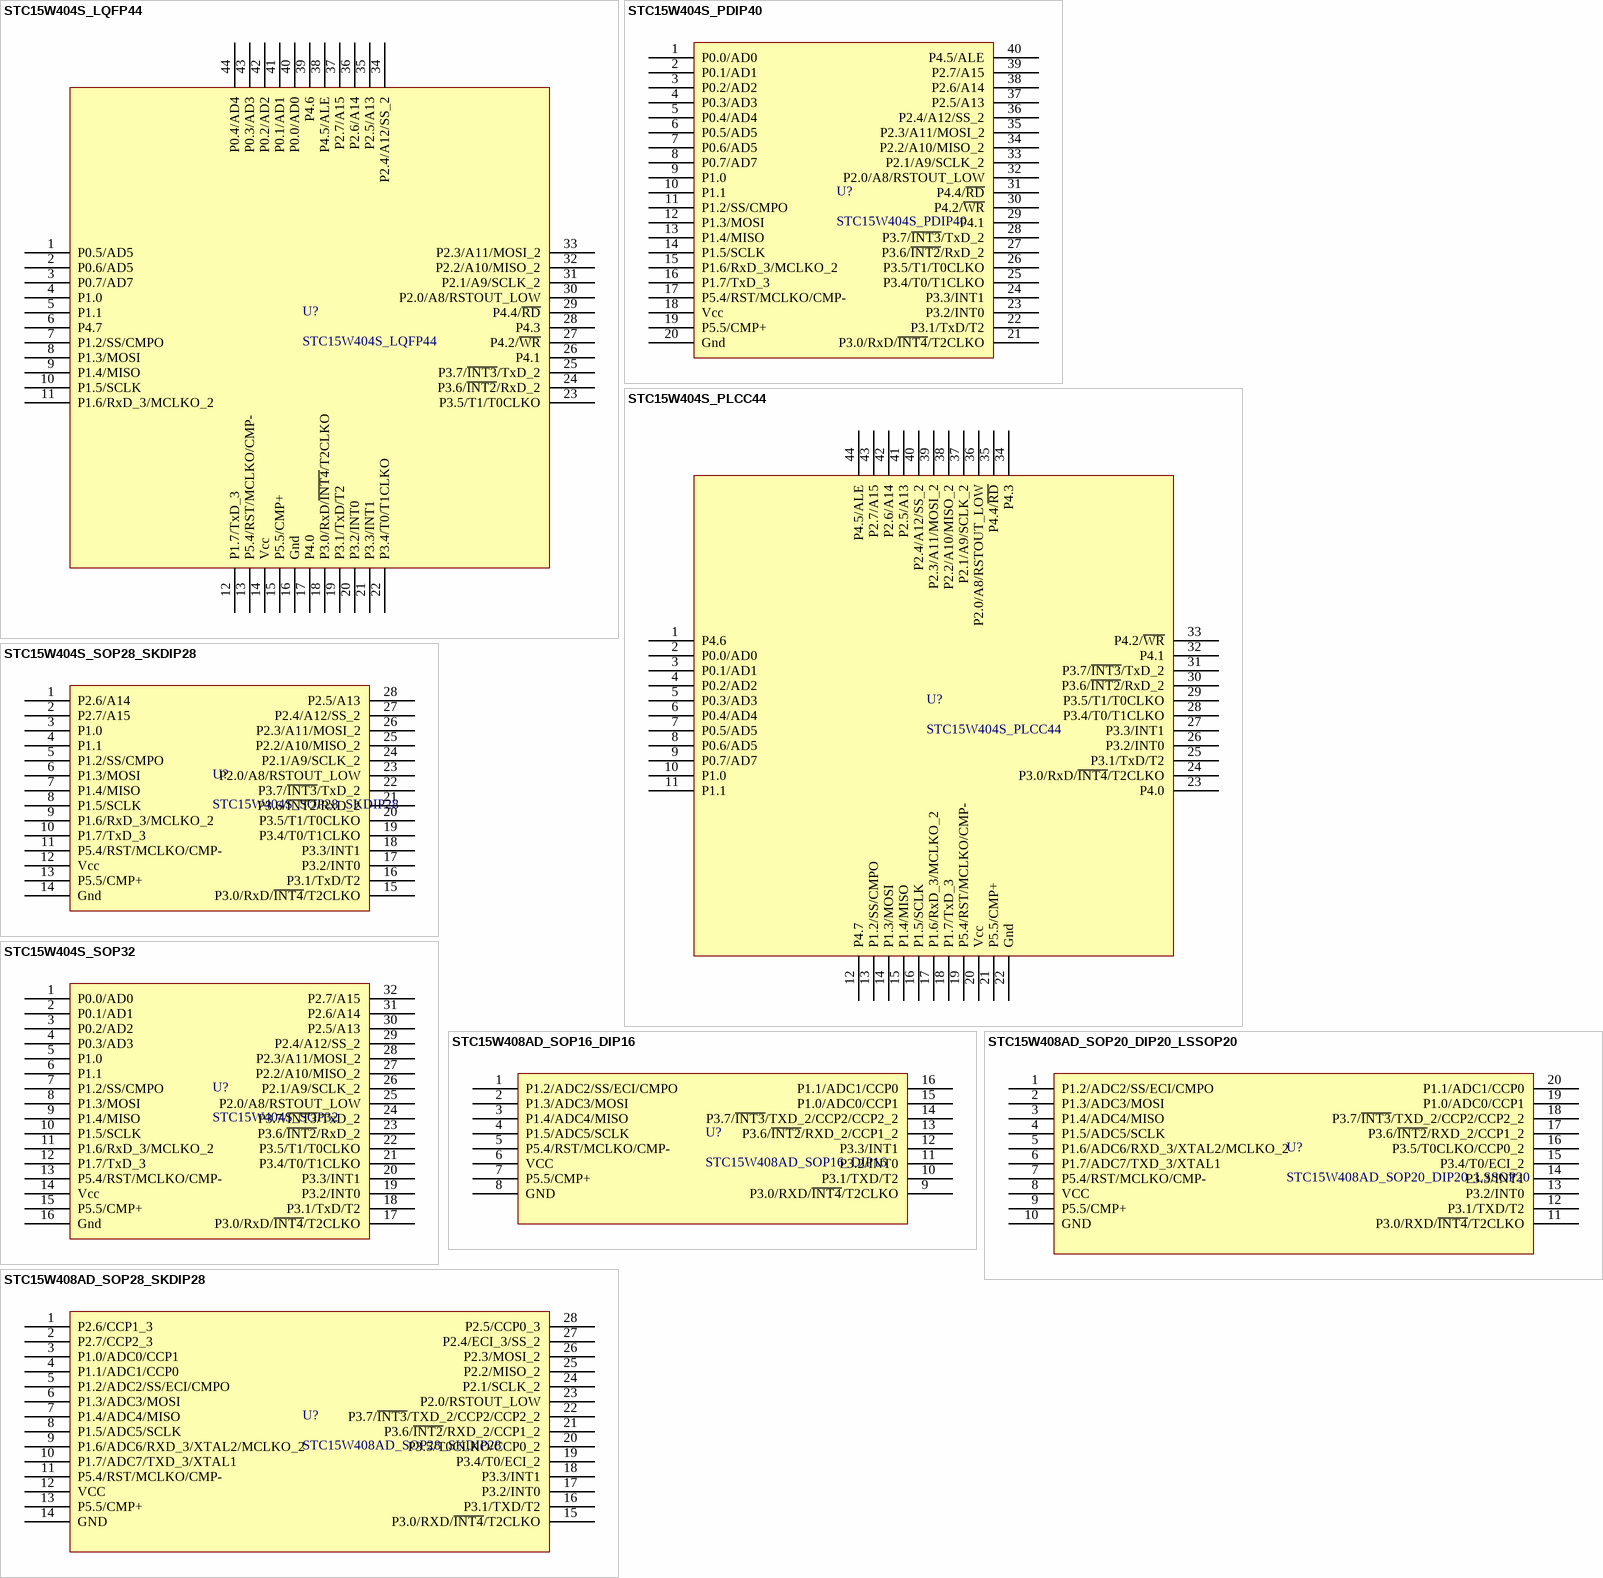
[diagram p8: symbols STC15W404S_LQFP44 to STC15W408AD_SOP28_SKDIP28]

## STC15W404S_LQFP44
designator U?
footprint LQFP44
pins: 1 P0.5/AD5, 2 P0.6/AD5, 3 P0.7/AD7, 4 P1.0, 5 P1.1, 6 P4.7, 7 P1.2/SS/CMPO, 8 P1.3/MOSI, 9 P1.4/MISO, 10 P1.5/SCLK, 11 P1.6/RxD_3/MCLKO_2, 12 P1.7/TxD_3, 13 P5.4/RST/MCLKO/CMP-, 14 Vcc, 15 P5.5/CMP+, 16 Gnd, 17 P4.0, 18 P3.0/RxD/~{INT4}/T2CLKO, 19 P3.1/TxD/T2, 20 P3.2/INT0, 21 P3.3/INT1, 22 P3.4/T0/T1CLKO, 23 P3.5/T1/T0CLKO, 24 P3.6/~{INT2}/RxD_2, 25 P3.7/~{INT3}/TxD_2, 26 P4.1, 27 P4.2/~{WR}, 28 P4.3, 29 P4.4/~{RD}, 30 P2.0/A8/RSTOUT_LOW, 31 P2.1/A9/SCLK_2, 32 P2.2/A10/MISO_2, 33 P2.3/A11/MOSI_2, 34 P2.4/A12/SS_2, 35 P2.5/A13, 36 P2.6/A14, 37 P2.7/A15, 38 P4.5/ALE, 39 P4.6, 40 P0.0/AD0, 41 P0.1/AD1, 42 P0.2/AD2, 43 P0.3/AD3, 44 P0.4/AD4

## STC15W404S_PDIP40
designator U?
footprint DIP40
pins: 1 P0.0/AD0, 2 P0.1/AD1, 3 P0.2/AD2, 4 P0.3/AD3, 5 P0.4/AD4, 6 P0.5/AD5, 7 P0.6/AD5, 8 P0.7/AD7, 9 P1.0, 10 P1.1, 11 P1.2/SS/CMPO, 12 P1.3/MOSI, 13 P1.4/MISO, 14 P1.5/SCLK, 15 P1.6/RxD_3/MCLKO_2, 16 P1.7/TxD_3, 17 P5.4/RST/MCLKO/CMP-, 18 Vcc, 19 P5.5/CMP+, 20 Gnd, 21 P3.0/RxD/~{INT4}/T2CLKO, 22 P3.1/TxD/T2, 23 P3.2/INT0, 24 P3.3/INT1, 25 P3.4/T0/T1CLKO, 26 P3.5/T1/T0CLKO, 27 P3.6/~{INT2}/RxD_2, 28 P3.7/~{INT3}/TxD_2, 29 P4.1, 30 P4.2/~{WR}, 31 P4.4/~{RD}, 32 P2.0/A8/RSTOUT_LOW, 33 P2.1/A9/SCLK_2, 34 P2.2/A10/MISO_2, 35 P2.3/A11/MOSI_2, 36 P2.4/A12/SS_2, 37 P2.5/A13, 38 P2.6/A14, 39 P2.7/A15, 40 P4.5/ALE

## STC15W404S_PLCC44
designator U?
footprint PLCC44
pins: 1 P4.6, 2 P0.0/AD0, 3 P0.1/AD1, 4 P0.2/AD2, 5 P0.3/AD3, 6 P0.4/AD4, 7 P0.5/AD5, 8 P0.6/AD5, 9 P0.7/AD7, 10 P1.0, 11 P1.1, 12 P4.7, 13 P1.2/SS/CMPO, 14 P1.3/MOSI, 15 P1.4/MISO, 16 P1.5/SCLK, 17 P1.6/RxD_3/MCLKO_2, 18 P1.7/TxD_3, 19 P5.4/RST/MCLKO/CMP-, 20 Vcc, 21 P5.5/CMP+, 22 Gnd, 23 P4.0, 24 P3.0/RxD/~{INT4}/T2CLKO, 25 P3.1/TxD/T2, 26 P3.2/INT0, 27 P3.3/INT1, 28 P3.4/T0/T1CLKO, 29 P3.5/T1/T0CLKO, 30 P3.6/~{INT2}/RxD_2, 31 P3.7/~{INT3}/TxD_2, 32 P4.1, 33 P4.2/~{WR}, 34 P4.3, 35 P4.4/~{RD}, 36 P2.0/A8/RSTOUT_LOW, 37 P2.1/A9/SCLK_2, 38 P2.2/A10/MISO_2, 39 P2.3/A11/MOSI_2, 40 P2.4/A12/SS_2, 41 P2.5/A13, 42 P2.6/A14, 43 P2.7/A15, 44 P4.5/ALE

## STC15W404S_SOP28_SKDIP28
designator U?
footprint SOP28
footprint SKDIP28
pins: 1 P2.6/A14, 2 P2.7/A15, 3 P1.0, 4 P1.1, 5 P1.2/SS/CMPO, 6 P1.3/MOSI, 7 P1.4/MISO, 8 P1.5/SCLK, 9 P1.6/RxD_3/MCLKO_2, 10 P1.7/TxD_3, 11 P5.4/RST/MCLKO/CMP-, 12 Vcc, 13 P5.5/CMP+, 14 Gnd, 15 P3.0/RxD/~{INT4}/T2CLKO, 16 P3.1/TxD/T2, 17 P3.2/INT0, 18 P3.3/INT1, 19 P3.4/T0/T1CLKO, 20 P3.5/T1/T0CLKO, 21 P3.6/~{INT2}/RxD_2, 22 P3.7/~{INT3}/TxD_2, 23 P2.0/A8/RSTOUT_LOW, 24 P2.1/A9/SCLK_2, 25 P2.2/A10/MISO_2, 26 P2.3/A11/MOSI_2, 27 P2.4/A12/SS_2, 28 P2.5/A13

## STC15W404S_SOP32
designator U?
footprint SOP32
pins: 1 P0.0/AD0, 2 P0.1/AD1, 3 P0.2/AD2, 4 P0.3/AD3, 5 P1.0, 6 P1.1, 7 P1.2/SS/CMPO, 8 P1.3/MOSI, 9 P1.4/MISO, 10 P1.5/SCLK, 11 P1.6/RxD_3/MCLKO_2, 12 P1.7/TxD_3, 13 P5.4/RST/MCLKO/CMP-, 14 Vcc, 15 P5.5/CMP+, 16 Gnd, 17 P3.0/RxD/~{INT4}/T2CLKO, 18 P3.1/TxD/T2, 19 P3.2/INT0, 20 P3.3/INT1, 21 P3.4/T0/T1CLKO, 22 P3.5/T1/T0CLKO, 23 P3.6/~{INT2}/RxD_2, 24 P3.7/~{INT3}/TxD_2, 25 P2.0/A8/RSTOUT_LOW, 26 P2.1/A9/SCLK_2, 27 P2.2/A10/MISO_2, 28 P2.3/A11/MOSI_2, 29 P2.4/A12/SS_2, 30 P2.5/A13, 31 P2.6/A14, 32 P2.7/A15

## STC15W408AD_SOP16_DIP16
designator U?
footprint DIP16
footprint SOP16
pins: 1 P1.2/ADC2/SS/ECI/CMPO, 2 P1.3/ADC3/MOSI, 3 P1.4/ADC4/MISO, 4 P1.5/ADC5/SCLK, 5 P5.4/RST/MCLKO/CMP-, 6 VCC, 7 P5.5/CMP+, 8 GND, 9 P3.0/RXD/~{INT4}/T2CLKO, 10 P3.1/TXD/T2, 11 P3.2/INT0, 12 P3.3/INT1, 13 P3.6/~{INT2}/RXD_2/CCP1_2, 14 P3.7/~{INT3}/TXD_2/CCP2/CCP2_2, 15 P1.0/ADC0/CCP1, 16 P1.1/ADC1/CCP0

## STC15W408AD_SOP20_DIP20_LSSOP20
designator U?
footprint DIP20
footprint LSSOP20
footprint SOP20
footprint TSSOP20
pins: 1 P1.2/ADC2/SS/ECI/CMPO, 2 P1.3/ADC3/MOSI, 3 P1.4/ADC4/MISO, 4 P1.5/ADC5/SCLK, 5 P1.6/ADC6/RXD_3/XTAL2/MCLKO_2, 6 P1.7/ADC7/TXD_3/XTAL1, 7 P5.4/RST/MCLKO/CMP-, 8 VCC, 9 P5.5/CMP+, 10 GND, 11 P3.0/RXD/~{INT4}/T2CLKO, 12 P3.1/TXD/T2, 13 P3.2/INT0, 14 P3.3/INT1, 15 P3.4/T0/ECI_2, 16 P3.5/T0CLKO/CCP0_2, 17 P3.6/~{INT2}/RXD_2/CCP1_2, 18 P3.7/~{INT3}/TXD_2/CCP2/CCP2_2, 19 P1.0/ADC0/CCP1, 20 P1.1/ADC1/CCP0

## STC15W408AD_SOP28_SKDIP28
designator U?
footprint SKDIP28
footprint SOP28
footprint TSSOP28
pins: 1 P2.6/CCP1_3, 2 P2.7/CCP2_3, 3 P1.0/ADC0/CCP1, 4 P1.1/ADC1/CCP0, 5 P1.2/ADC2/SS/ECI/CMPO, 6 P1.3/ADC3/MOSI, 7 P1.4/ADC4/MISO, 8 P1.5/ADC5/SCLK, 9 P1.6/ADC6/RXD_3/XTAL2/MCLKO_2, 10 P1.7/ADC7/TXD_3/XTAL1, 11 P5.4/RST/MCLKO/CMP-, 12 VCC, 13 P5.5/CMP+, 14 GND, 15 P3.0/RXD/~{INT4}/T2CLKO, 16 P3.1/TXD/T2, 17 P3.2/INT0, 18 P3.3/INT1, 19 P3.4/T0/ECI_2, 20 P3.5/T0CLKO/CCP0_2, 21 P3.6/~{INT2}/RXD_2/CCP1_2, 22 P3.7/~{INT3}/TXD_2/CCP2/CCP2_2, 23 P2.0/RSTOUT_LOW, 24 P2.1/SCLK_2, 25 P2.2/MISO_2, 26 P2.3/MOSI_2, 27 P2.4/ECI_3/SS_2, 28 P2.5/CCP0_3

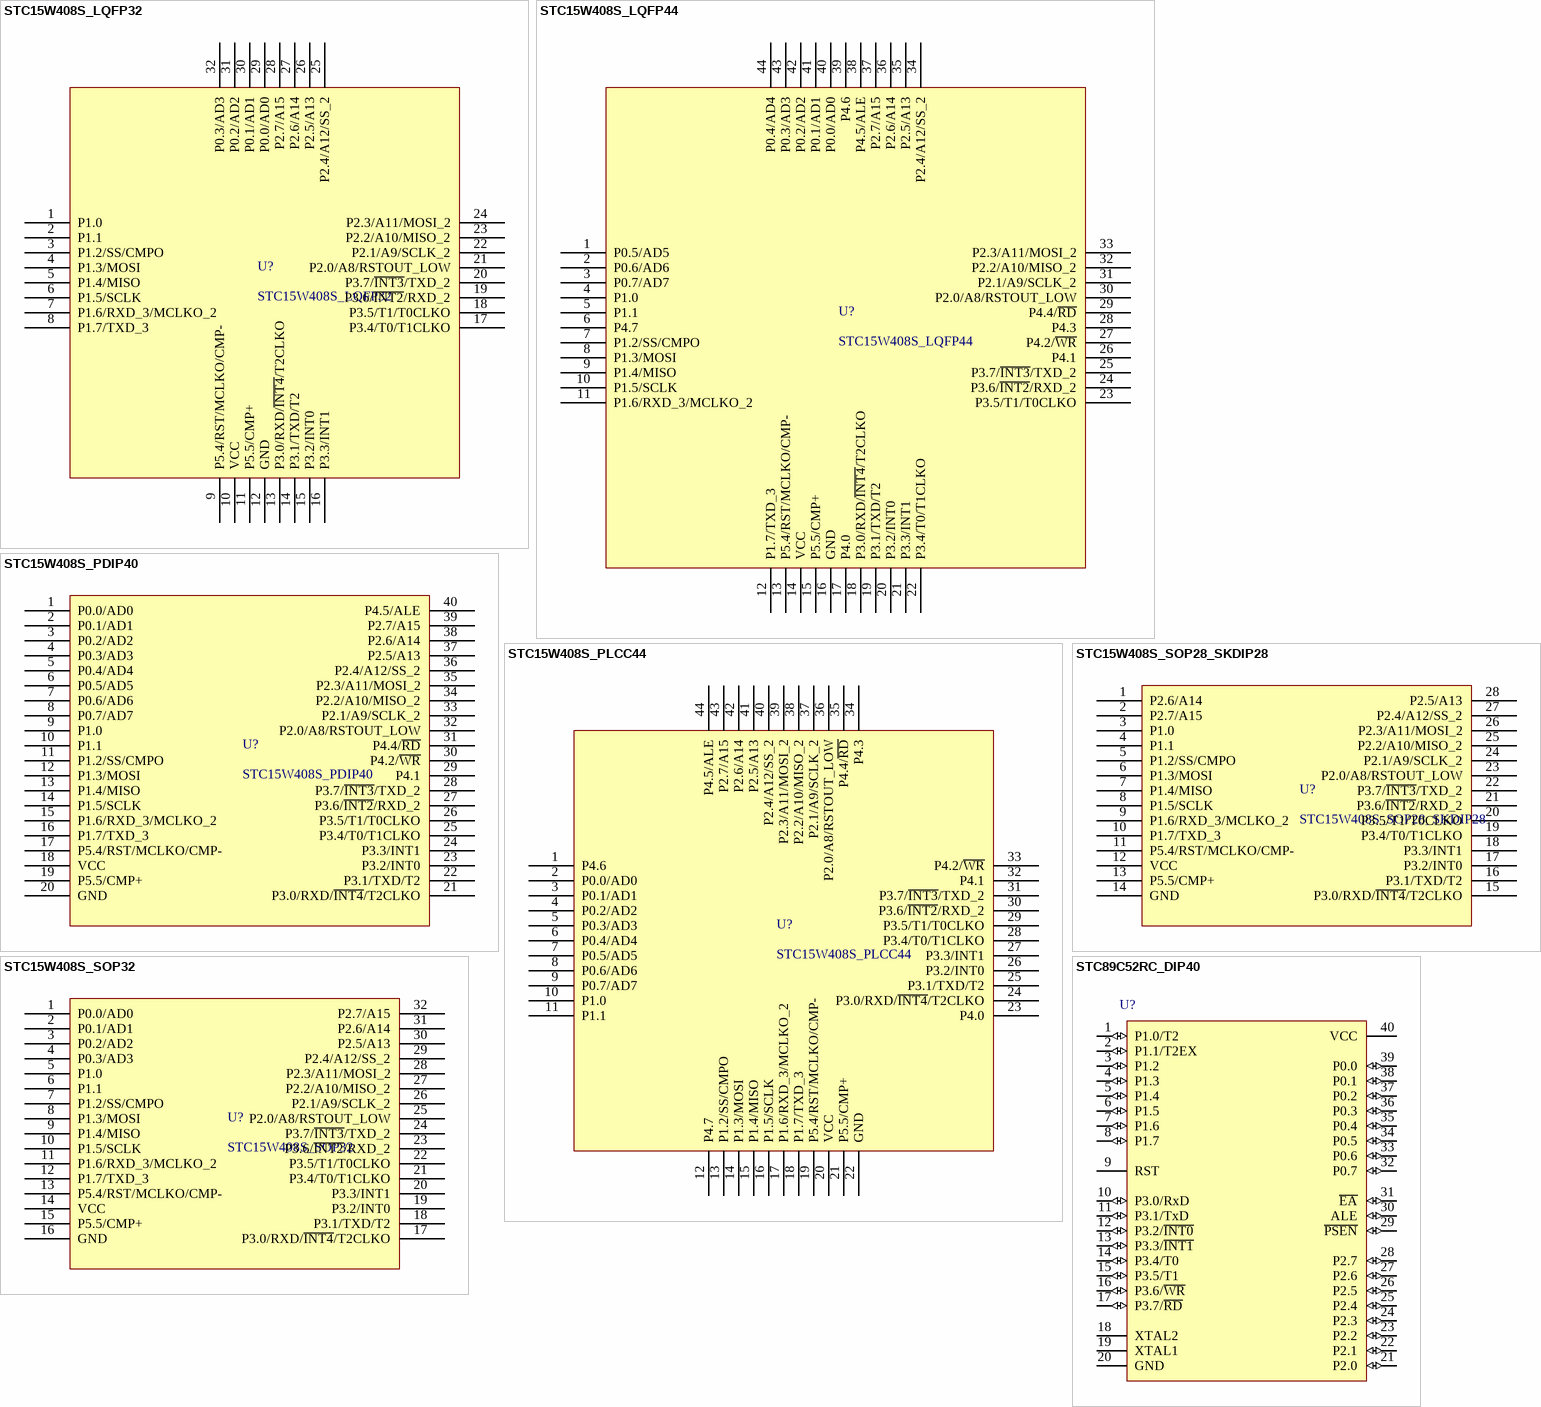
[diagram p9: symbols STC15W408S_LQFP32 to STC89C52RC_DIP40]

## STC15W408S_LQFP32
designator U?
footprint LQFP32
pins: 1 P1.0, 2 P1.1, 3 P1.2/SS/CMPO, 4 P1.3/MOSI, 5 P1.4/MISO, 6 P1.5/SCLK, 7 P1.6/RXD_3/MCLKO_2, 8 P1.7/TXD_3, 9 P5.4/RST/MCLKO/CMP-, 10 VCC, 11 P5.5/CMP+, 12 GND, 13 P3.0/RXD/~{INT4}/T2CLKO, 14 P3.1/TXD/T2, 15 P3.2/INT0, 16 P3.3/INT1, 17 P3.4/T0/T1CLKO, 18 P3.5/T1/T0CLKO, 19 P3.6/~{INT2}/RXD_2, 20 P3.7/~{INT3}/TXD_2, 21 P2.0/A8/RSTOUT_LOW, 22 P2.1/A9/SCLK_2, 23 P2.2/A10/MISO_2, 24 P2.3/A11/MOSI_2, 25 P2.4/A12/SS_2, 26 P2.5/A13, 27 P2.6/A14, 28 P2.7/A15, 29 P0.0/AD0, 30 P0.1/AD1, 31 P0.2/AD2, 32 P0.3/AD3

## STC15W408S_LQFP44
designator U?
footprint LQFP44
footprint PQFP44
pins: 1 P0.5/AD5, 2 P0.6/AD6, 3 P0.7/AD7, 4 P1.0, 5 P1.1, 6 P4.7, 7 P1.2/SS/CMPO, 8 P1.3/MOSI, 9 P1.4/MISO, 10 P1.5/SCLK, 11 P1.6/RXD_3/MCLKO_2, 12 P1.7/TXD_3, 13 P5.4/RST/MCLKO/CMP-, 14 VCC, 15 P5.5/CMP+, 16 GND, 17 P4.0, 18 P3.0/RXD/~{INT4}/T2CLKO, 19 P3.1/TXD/T2, 20 P3.2/INT0, 21 P3.3/INT1, 22 P3.4/T0/T1CLKO, 23 P3.5/T1/T0CLKO, 24 P3.6/~{INT2}/RXD_2, 25 P3.7/~{INT3}/TXD_2, 26 P4.1, 27 P4.2/~{WR}, 28 P4.3, 29 P4.4/~{RD}, 30 P2.0/A8/RSTOUT_LOW, 31 P2.1/A9/SCLK_2, 32 P2.2/A10/MISO_2, 33 P2.3/A11/MOSI_2, 34 P2.4/A12/SS_2, 35 P2.5/A13, 36 P2.6/A14, 37 P2.7/A15, 38 P4.5/ALE, 39 P4.6, 40 P0.0/AD0, 41 P0.1/AD1, 42 P0.2/AD2, 43 P0.3/AD3, 44 P0.4/AD4

## STC15W408S_PDIP40
designator U?
footprint DIP40
pins: 1 P0.0/AD0, 2 P0.1/AD1, 3 P0.2/AD2, 4 P0.3/AD3, 5 P0.4/AD4, 6 P0.5/AD5, 7 P0.6/AD6, 8 P0.7/AD7, 9 P1.0, 10 P1.1, 11 P1.2/SS/CMPO, 12 P1.3/MOSI, 13 P1.4/MISO, 14 P1.5/SCLK, 15 P1.6/RXD_3/MCLKO_2, 16 P1.7/TXD_3, 17 P5.4/RST/MCLKO/CMP-, 18 VCC, 19 P5.5/CMP+, 20 GND, 21 P3.0/RXD/~{INT4}/T2CLKO, 22 P3.1/TXD/T2, 23 P3.2/INT0, 24 P3.3/INT1, 25 P3.4/T0/T1CLKO, 26 P3.5/T1/T0CLKO, 27 P3.6/~{INT2}/RXD_2, 28 P3.7/~{INT3}/TXD_2, 29 P4.1, 30 P4.2/~{WR}, 31 P4.4/~{RD}, 32 P2.0/A8/RSTOUT_LOW, 33 P2.1/A9/SCLK_2, 34 P2.2/A10/MISO_2, 35 P2.3/A11/MOSI_2, 36 P2.4/A12/SS_2, 37 P2.5/A13, 38 P2.6/A14, 39 P2.7/A15, 40 P4.5/ALE

## STC15W408S_PLCC44
designator U?
footprint PLCC44
pins: 1 P4.6, 2 P0.0/AD0, 3 P0.1/AD1, 4 P0.2/AD2, 5 P0.3/AD3, 6 P0.4/AD4, 7 P0.5/AD5, 8 P0.6/AD6, 9 P0.7/AD7, 10 P1.0, 11 P1.1, 12 P4.7, 13 P1.2/SS/CMPO, 14 P1.3/MOSI, 15 P1.4/MISO, 16 P1.5/SCLK, 17 P1.6/RXD_3/MCLKO_2, 18 P1.7/TXD_3, 19 P5.4/RST/MCLKO/CMP-, 20 VCC, 21 P5.5/CMP+, 22 GND, 23 P4.0, 24 P3.0/RXD/~{INT4}/T2CLKO, 25 P3.1/TXD/T2, 26 P3.2/INT0, 27 P3.3/INT1, 28 P3.4/T0/T1CLKO, 29 P3.5/T1/T0CLKO, 30 P3.6/~{INT2}/RXD_2, 31 P3.7/~{INT3}/TXD_2, 32 P4.1, 33 P4.2/~{WR}, 34 P4.3, 35 P4.4/~{RD}, 36 P2.0/A8/RSTOUT_LOW, 37 P2.1/A9/SCLK_2, 38 P2.2/A10/MISO_2, 39 P2.3/A11/MOSI_2, 40 P2.4/A12/SS_2, 41 P2.5/A13, 42 P2.6/A14, 43 P2.7/A15, 44 P4.5/ALE

## STC15W408S_SOP28_SKDIP28
designator U?
footprint SKDIP28
footprint SOP28
footprint TSSOP28
pins: 1 P2.6/A14, 2 P2.7/A15, 3 P1.0, 4 P1.1, 5 P1.2/SS/CMPO, 6 P1.3/MOSI, 7 P1.4/MISO, 8 P1.5/SCLK, 9 P1.6/RXD_3/MCLKO_2, 10 P1.7/TXD_3, 11 P5.4/RST/MCLKO/CMP-, 12 VCC, 13 P5.5/CMP+, 14 GND, 15 P3.0/RXD/~{INT4}/T2CLKO, 16 P3.1/TXD/T2, 17 P3.2/INT0, 18 P3.3/INT1, 19 P3.4/T0/T1CLKO, 20 P3.5/T1/T0CLKO, 21 P3.6/~{INT2}/RXD_2, 22 P3.7/~{INT3}/TXD_2, 23 P2.0/A8/RSTOUT_LOW, 24 P2.1/A9/SCLK_2, 25 P2.2/A10/MISO_2, 26 P2.3/A11/MOSI_2, 27 P2.4/A12/SS_2, 28 P2.5/A13

## STC15W408S_SOP32
designator U?
footprint SOP32
pins: 1 P0.0/AD0, 2 P0.1/AD1, 3 P0.2/AD2, 4 P0.3/AD3, 5 P1.0, 6 P1.1, 7 P1.2/SS/CMPO, 8 P1.3/MOSI, 9 P1.4/MISO, 10 P1.5/SCLK, 11 P1.6/RXD_3/MCLKO_2, 12 P1.7/TXD_3, 13 P5.4/RST/MCLKO/CMP-, 14 VCC, 15 P5.5/CMP+, 16 GND, 17 P3.0/RXD/~{INT4}/T2CLKO, 18 P3.1/TXD/T2, 19 P3.2/INT0, 20 P3.3/INT1, 21 P3.4/T0/T1CLKO, 22 P3.5/T1/T0CLKO, 23 P3.6/~{INT2}/RXD_2, 24 P3.7/~{INT3}/TXD_2, 25 P2.0/A8/RSTOUT_LOW, 26 P2.1/A9/SCLK_2, 27 P2.2/A10/MISO_2, 28 P2.3/A11/MOSI_2, 29 P2.4/A12/SS_2, 30 P2.5/A13, 31 P2.6/A14, 32 P2.7/A15

## STC89C52RC_DIP40
designator U?
增强型8051单片机
footprint DIP40
pins: 1 P1.0/T2 (io), 2 P1.1/T2EX (io), 3 P1.2 (io), 4 P1.3 (io), 5 P1.4 (io), 6 P1.5 (io), 7 P1.6 (io), 8 P1.7 (io), 9 RST, 10 P3.0/RxD (io), 11 P3.1/TxD (io), 12 P3.2/~{INT0} (io), 13 P3.3/~{INT1} (io), 14 P3.4/T0 (io), 15 P3.5/T1 (io), 16 P3.6/~{WR} (io), 17 P3.7/~{RD} (io), 18 XTAL2, 19 XTAL1, 20 GND (power), 21 P2.0 (io), 22 P2.1 (io), 23 P2.2 (io), 24 P2.3 (io), 25 P2.4 (io), 26 P2.5 (io), 27 P2.6 (io), 28 P2.7 (io), 29 ~{PSEN} (io), 30 ALE (io), 31 ~{EA} (io), 32 P0.7 (io), 33 P0.6 (io), 34 P0.5 (io), 35 P0.4 (io), 36 P0.3 (io), 37 P0.2 (io), 38 P0.1 (io), 39 P0.0 (io), 40 VCC (power)